# Altium schematic symbol library MCU_ST_STM32H7.SchLib: 15 symbols
Pins are listed as number, name and electrical type; pins without a type are passive.

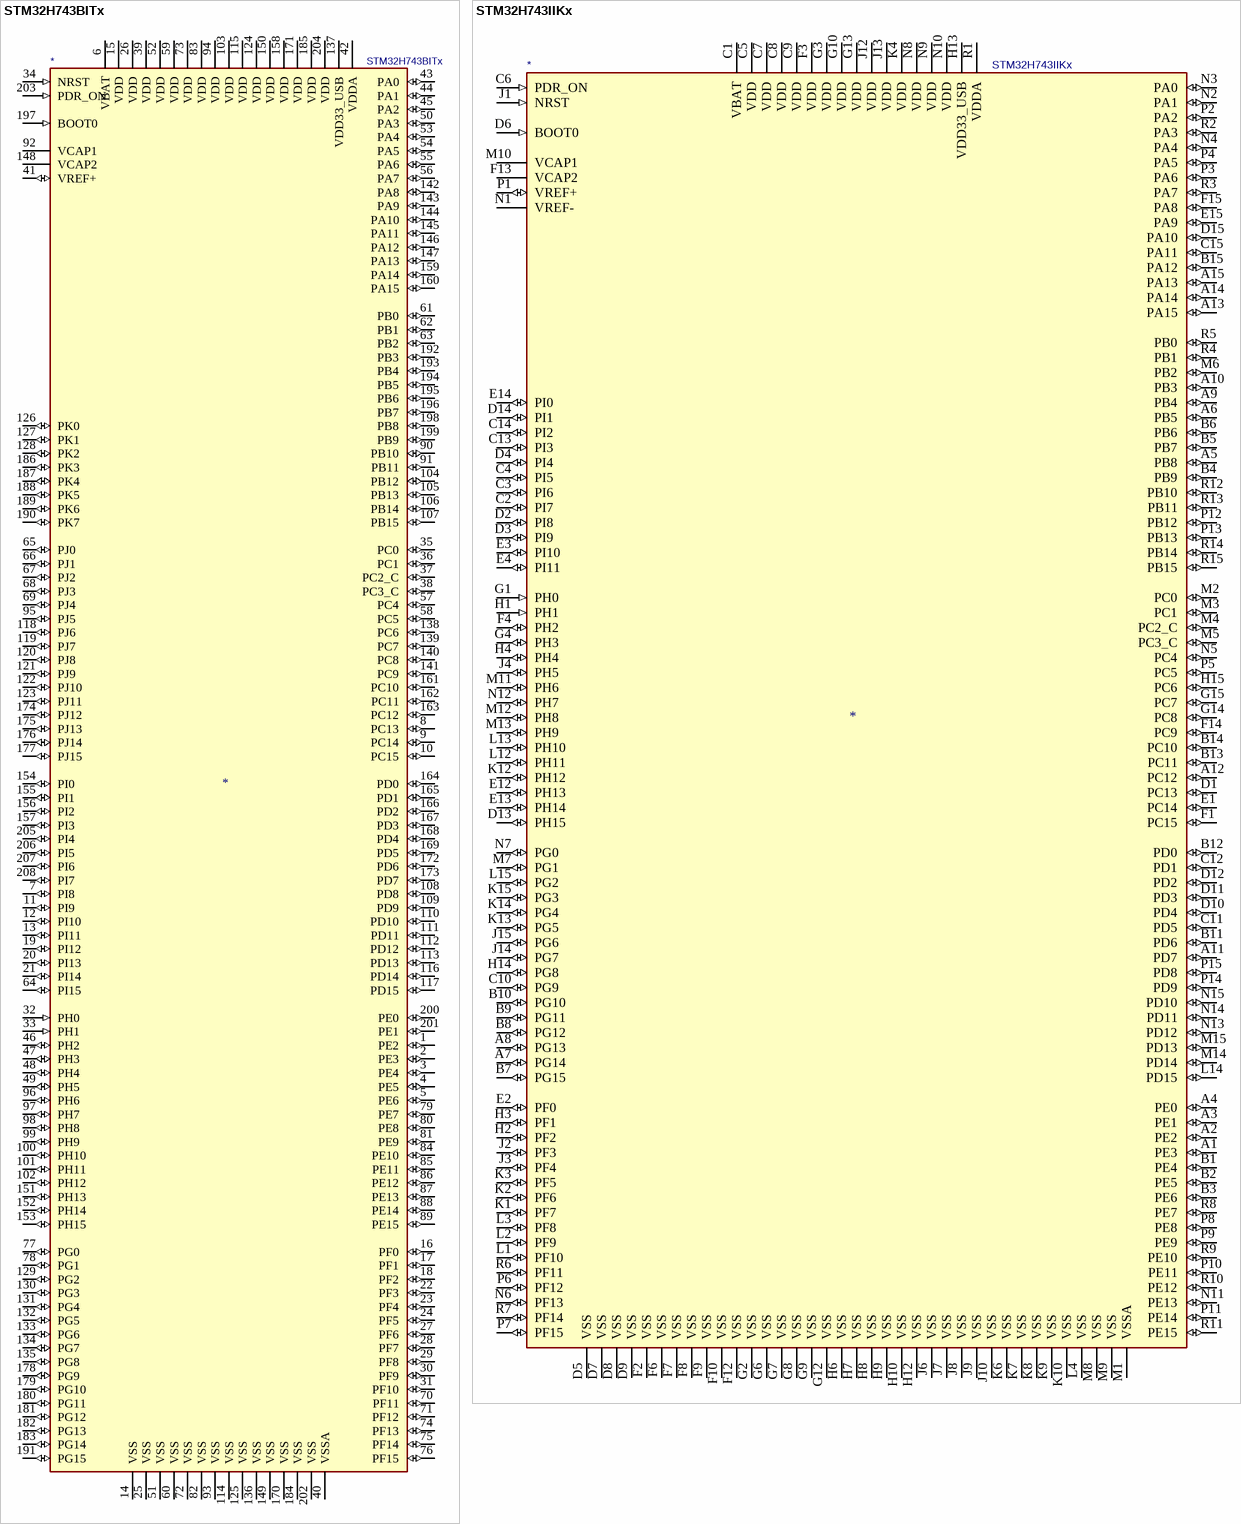
[diagram p0: symbols STM32H743BITx to STM32H743IIKx]

## STM32H743BITx
designator *  value STM32H743BITx
ki_keywords: ARM Cortex-M7 STM32H7 STM32H7x3; ki_description: ARM Cortex-M7 MCU, 2048KB flash, 864KB RAM, 400MHz, 1.7-3.6V, 168 GPIO, LQFP-208; ki_fp_filters: LQFP*28x28mm*P0.5mm*; Footprint: Package_QFP:LQFP-208_28x28mm_P0.5mm; Supplier: http://www.st.com/st-web-ui/static/active/en/resource/technical/document/datasheet/DM00387108.pdf
footprint LQFP-208_28x28mm_P0.5mm
pins: 1 PE2 (io), 2 PE3 (io), 3 PE4 (io), 4 PE5 (io), 5 PE6 (io), 6 VBAT (power), 7 PI8 (io), 8 PC13 (io), 9 PC14 (io), 10 PC15 (io), 11 PI9 (io), 12 PI10 (io), 13 PI11 (io), 14 VSS (power), 15 VDD (power), 16 PF0 (io), 17 PF1 (io), 18 PF2 (io), 19 PI12 (io), 20 PI13 (io), 21 PI14 (io), 22 PF3 (io), 23 PF4 (io), 24 PF5 (io), 25 VSS (power), 26 VDD (power), 27 PF6 (io), 28 PF7 (io), 29 PF8 (io), 30 PF9 (io), 31 PF10 (io), 32 PH0 (in), 33 PH1 (in), 34 NRST (in), 35 PC0 (io), 36 PC1 (io), 37 PC2_C (io), 38 PC3_C (io), 39 VDD (power), 40 VSSA (power), 41 VREF+ (io), 42 VDDA (power), 43 PA0 (io), 44 PA1 (io), 45 PA2 (io), 46 PH2 (io), 47 PH3 (io), 48 PH4 (io), 49 PH5 (io), 50 PA3 (io), 51 VSS (power), 52 VDD (power), 53 PA4 (io), 54 PA5 (io), 55 PA6 (io), 56 PA7 (io), 57 PC4 (io), 58 PC5 (io), 59 VDD (power), 60 VSS (power), 61 PB0 (io), 62 PB1 (io), 63 PB2 (io), 64 PI15 (io), 65 PJ0 (io), 66 PJ1 (io), 67 PJ2 (io), 68 PJ3 (io), 69 PJ4 (io), 70 PF11 (io), 71 PF12 (io), 72 VSS (power), 73 VDD (power), 74 PF13 (io), 75 PF14 (io), 76 PF15 (io), 77 PG0 (io), 78 PG1 (io), 79 PE7 (io), 80 PE8 (io), 81 PE9 (io), 82 VSS (power), 83 VDD (power), 84 PE10 (io), 85 PE11 (io), 86 PE12 (io), 87 PE13 (io), 88 PE14 (io), 89 PE15 (io), 90 PB10 (io), 91 PB11 (io), 92 VCAP1 (power), 93 VSS (power), 94 VDD (power), 95 PJ5 (io), 96 PH6 (io), 97 PH7 (io), 98 PH8 (io), 99 PH9 (io), 100 PH10 (io), 101 PH11 (io), 102 PH12 (io), 103 VDD (power), 104 PB12 (io), 105 PB13 (io), 106 PB14 (io), 107 PB15 (io), 108 PD8 (io), 109 PD9 (io), 110 PD10 (io), 111 PD11 (io), 112 PD12 (io), 113 PD13 (io), 114 VSS (power), 115 VDD (power), 116 PD14 (io), 117 PD15 (io), 118 PJ6 (io), 119 PJ7 (io), 120 PJ8 (io), 121 PJ9 (io), 122 PJ10 (io), 123 PJ11 (io), 124 VDD (power), 125 VSS (power), 126 PK0 (io), 127 PK1 (io), 128 PK2 (io), 129 PG2 (io), 130 PG3 (io), 131 PG4 (io), 132 PG5 (io), 133 PG6 (io), 134 PG7 (io), 135 PG8 (io), 136 VSS (power), 137 VDD33_USB (power), 138 PC6 (io), 139 PC7 (io), 140 PC8 (io), 141 PC9 (io), 142 PA8 (io), 143 PA9 (io), 144 PA10 (io), 145 PA11 (io), 146 PA12 (io), 147 PA13 (io), 148 VCAP2 (power), 149 VSS (power), 150 VDD (power), 151 PH13 (io), 152 PH14 (io), 153 PH15 (io), 154 PI0 (io), 155 PI1 (io), 156 PI2 (io), 157 PI3 (io), 158 VDD (power), 159 PA14 (io), 160 PA15 (io), 161 PC10 (io), 162 PC11 (io), 163 PC12 (io), 164 PD0 (io), 165 PD1 (io), 166 PD2 (io), 167 PD3 (io), 168 PD4 (io), 169 PD5 (io), 170 VSS (power), 171 VDD (power), 172 PD6 (io), 173 PD7 (io), 174 PJ12 (io), 175 PJ13 (io), 176 PJ14 (io), 177 PJ15 (io), 178 PG9 (io), 179 PG10 (io), 180 PG11 (io), 181 PG12 (io), 182 PG13 (io), 183 PG14 (io), 184 VSS (power), 185 VDD (power), 186 PK3 (io), 187 PK4 (io), 188 PK5 (io), 189 PK6 (io), 190 PK7 (io), 191 PG15 (io), 192 PB3 (io), 193 PB4 (io), 194 PB5 (io), 195 PB6 (io), 196 PB7 (io), 197 BOOT0 (in), 198 PB8 (io), 199 PB9 (io), 200 PE0 (io), 201 PE1 (io), 202 VSS (power), 203 PDR_ON (in), 204 VDD (power), 205 PI4 (io), 206 PI5 (io), 207 PI6 (io), 208 PI7 (io)

## STM32H743IIKx
designator *  value STM32H743IIKx
ki_keywords: ARM Cortex-M7 STM32H7 STM32H7x3; ki_description: ARM Cortex-M7 MCU, 2048KB flash, 864KB RAM, 400MHz, 1.7-3.6V, 140 GPIO, UFBGA-176; ki_fp_filters: UFBGA*10x10mm*Layout15x15*P0.65mm*; Footprint: Package_BGA:UFBGA-201_10x10mm_Layout15x15_P0.65mm; Supplier: http://www.st.com/st-web-ui/static/active/en/resource/technical/document/datasheet/DM00387108.pdf
footprint UFBGA-201_10x10mm_Layout15x15_P0.65mm
pins: A1 PE3 (io), A2 PE2 (io), A3 PE1 (io), A4 PE0 (io), A5 PB8 (io), A6 PB5 (io), A7 PG14 (io), A8 PG13 (io), A9 PB4 (io), A10 PB3 (io), A11 PD7 (io), A12 PC12 (io), A13 PA15 (io), A14 PA14 (io), A15 PA13 (io), B1 PE4 (io), B2 PE5 (io), B3 PE6 (io), B4 PB9 (io), B5 PB7 (io), B6 PB6 (io), B7 PG15 (io), B8 PG12 (io), B9 PG11 (io), B10 PG10 (io), B11 PD6 (io), B12 PD0 (io), B13 PC11 (io), B14 PC10 (io), B15 PA12 (io), C1 VBAT (power), C2 PI7 (io), C3 PI6 (io), C4 PI5 (io), C5 VDD (power), C6 PDR_ON (in), C7 VDD (power), C8 VDD (power), C9 VDD (power), C10 PG9 (io), C11 PD5 (io), C12 PD1 (io), C13 PI3 (io), C14 PI2 (io), C15 PA11 (io), D1 PC13 (io), D2 PI8 (io), D3 PI9 (io), D4 PI4 (io), D5 VSS (power), D6 BOOT0 (in), D7 VSS (power), D8 VSS (power), D9 VSS (power), D10 PD4 (io), D11 PD3 (io), D12 PD2 (io), D13 PH15 (io), D14 PI1 (io), D15 PA10 (io), E1 PC14 (io), E2 PF0 (io), E3 PI10 (io), E4 PI11 (io), E12 PH13 (io), E13 PH14 (io), E14 PI0 (io), E15 PA9 (io), F1 PC15 (io), F2 VSS (power), F3 VDD (power), F4 PH2 (io), F6 VSS (power), F7 VSS (power), F8 VSS (power), F9 VSS (power), F10 VSS (power), F12 VSS (power), F13 VCAP2 (power), F14 PC9 (io), F15 PA8 (io), G1 PH0 (in), G2 VSS (power), G3 VDD (power), G4 PH3 (io), G6 VSS (power), G7 VSS (power), G8 VSS (power), G9 VSS (power), G10 VDD (power), G12 VSS (power), G13 VDD (power), G14 PC8 (io), G15 PC7 (io), H1 PH1 (in), H2 PF2 (io), H3 PF1 (io), H4 PH4 (io), H6 VSS (power), H7 VSS (power), H8 VSS (power), H9 VSS (power), H10 VSS (power), H12 VSS (power), H13 VDD33_USB (power), H14 PG8 (io), H15 PC6 (io), J1 NRST (in), J2 PF3 (io), J3 PF4 (io), J4 PH5 (io), J6 VSS (power), J7 VSS (power), J8 VSS (power), J9 VSS (power), J10 VSS (power), J12 VDD (power), J13 VDD (power), J14 PG7 (io), J15 PG6 (io), K1 PF7 (io), K2 PF6 (io), K3 PF5 (io), K4 VDD (power), K6 VSS (power), K7 VSS (power), K8 VSS (power), K9 VSS (power), K10 VSS (power), K12 PH12 (io), K13 PG5 (io), K14 PG4 (io), K15 PG3 (io), L1 PF10 (io), L2 PF9 (io), L3 PF8 (io), L4 VSS (power), L12 PH11 (io), L13 PH10 (io), L14 PD15 (io), L15 PG2 (io), M1 VSSA (power), M2 PC0 (io), M3 PC1 (io), M4 PC2_C (io), M5 PC3_C (io), M6 PB2 (io), M7 PG1 (io), M8 VSS (power), M9 VSS (power), M10 VCAP1 (power), M11 PH6 (io), M12 PH8 (io), M13 PH9 (io), M14 PD14 (io), M15 PD13 (io), N1 VREF- (power), N2 PA1 (io), N3 PA0 (io), N4 PA4 (io), N5 PC4 (io), N6 PF13 (io), N7 PG0 (io), N8 VDD (power), N9 VDD (power), N10 VDD (power), N11 PE13 (io), N12 PH7 (io), N13 PD12 (io), N14 PD11 (io), N15 PD10 (io), P1 VREF+ (io), P2 PA2 (io), P3 PA6 (io), P4 PA5 (io), P5 PC5 (io), P6 PF12 (io), P7 PF15 (io), P8 PE8 (io), P9 PE9 (io), P10 PE11 (io), P11 PE14 (io), P12 PB12 (io), P13 PB13 (io), P14 PD9 (io), P15 PD8 (io), R1 VDDA (power), R2 PA3 (io), R3 PA7 (io), R4 PB1 (io), R5 PB0 (io), R6 PF11 (io), R7 PF14 (io), R8 PE7 (io), R9 PE10 (io), R10 PE12 (io), R11 PE15 (io), R12 PB10 (io), R13 PB11 (io), R14 PB14 (io), R15 PB15 (io)

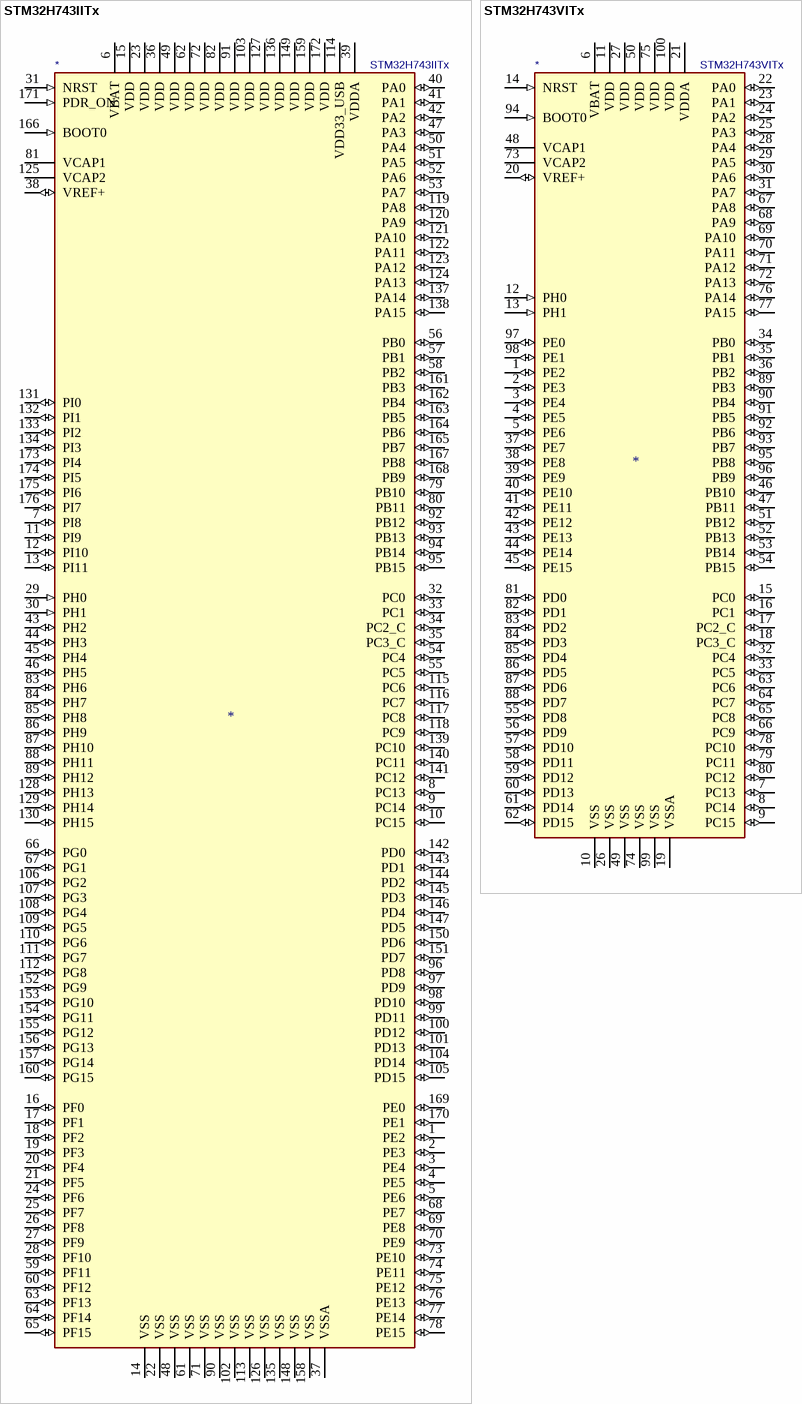
[diagram p1: symbols STM32H743IITx to STM32H743VITx]

## STM32H743IITx
designator *  value STM32H743IITx
ki_keywords: ARM Cortex-M7 STM32H7 STM32H7x3; ki_description: ARM Cortex-M7 MCU, 2048KB flash, 864KB RAM, 400MHz, 1.7-3.6V, 140 GPIO, LQFP-176; ki_fp_filters: LQFP*24x24mm*P0.5mm*; Footprint: Package_QFP:LQFP-176_24x24mm_P0.5mm; Supplier: http://www.st.com/st-web-ui/static/active/en/resource/technical/document/datasheet/DM00387108.pdf
footprint LQFP-176_24x24mm_P0.5mm
pins: 1 PE2 (io), 2 PE3 (io), 3 PE4 (io), 4 PE5 (io), 5 PE6 (io), 6 VBAT (power), 7 PI8 (io), 8 PC13 (io), 9 PC14 (io), 10 PC15 (io), 11 PI9 (io), 12 PI10 (io), 13 PI11 (io), 14 VSS (power), 15 VDD (power), 16 PF0 (io), 17 PF1 (io), 18 PF2 (io), 19 PF3 (io), 20 PF4 (io), 21 PF5 (io), 22 VSS (power), 23 VDD (power), 24 PF6 (io), 25 PF7 (io), 26 PF8 (io), 27 PF9 (io), 28 PF10 (io), 29 PH0 (in), 30 PH1 (in), 31 NRST (in), 32 PC0 (io), 33 PC1 (io), 34 PC2_C (io), 35 PC3_C (io), 36 VDD (power), 37 VSSA (power), 38 VREF+ (io), 39 VDDA (power), 40 PA0 (io), 41 PA1 (io), 42 PA2 (io), 43 PH2 (io), 44 PH3 (io), 45 PH4 (io), 46 PH5 (io), 47 PA3 (io), 48 VSS (power), 49 VDD (power), 50 PA4 (io), 51 PA5 (io), 52 PA6 (io), 53 PA7 (io), 54 PC4 (io), 55 PC5 (io), 56 PB0 (io), 57 PB1 (io), 58 PB2 (io), 59 PF11 (io), 60 PF12 (io), 61 VSS (power), 62 VDD (power), 63 PF13 (io), 64 PF14 (io), 65 PF15 (io), 66 PG0 (io), 67 PG1 (io), 68 PE7 (io), 69 PE8 (io), 70 PE9 (io), 71 VSS (power), 72 VDD (power), 73 PE10 (io), 74 PE11 (io), 75 PE12 (io), 76 PE13 (io), 77 PE14 (io), 78 PE15 (io), 79 PB10 (io), 80 PB11 (io), 81 VCAP1 (power), 82 VDD (power), 83 PH6 (io), 84 PH7 (io), 85 PH8 (io), 86 PH9 (io), 87 PH10 (io), 88 PH11 (io), 89 PH12 (io), 90 VSS (power), 91 VDD (power), 92 PB12 (io), 93 PB13 (io), 94 PB14 (io), 95 PB15 (io), 96 PD8 (io), 97 PD9 (io), 98 PD10 (io), 99 PD11 (io), 100 PD12 (io), 101 PD13 (io), 102 VSS (power), 103 VDD (power), 104 PD14 (io), 105 PD15 (io), 106 PG2 (io), 107 PG3 (io), 108 PG4 (io), 109 PG5 (io), 110 PG6 (io), 111 PG7 (io), 112 PG8 (io), 113 VSS (power), 114 VDD33_USB (power), 115 PC6 (io), 116 PC7 (io), 117 PC8 (io), 118 PC9 (io), 119 PA8 (io), 120 PA9 (io), 121 PA10 (io), 122 PA11 (io), 123 PA12 (io), 124 PA13 (io), 125 VCAP2 (power), 126 VSS (power), 127 VDD (power), 128 PH13 (io), 129 PH14 (io), 130 PH15 (io), 131 PI0 (io), 132 PI1 (io), 133 PI2 (io), 134 PI3 (io), 135 VSS (power), 136 VDD (power), 137 PA14 (io), 138 PA15 (io), 139 PC10 (io), 140 PC11 (io), 141 PC12 (io), 142 PD0 (io), 143 PD1 (io), 144 PD2 (io), 145 PD3 (io), 146 PD4 (io), 147 PD5 (io), 148 VSS (power), 149 VDD (power), 150 PD6 (io), 151 PD7 (io), 152 PG9 (io), 153 PG10 (io), 154 PG11 (io), 155 PG12 (io), 156 PG13 (io), 157 PG14 (io), 158 VSS (power), 159 VDD (power), 160 PG15 (io), 161 PB3 (io), 162 PB4 (io), 163 PB5 (io), 164 PB6 (io), 165 PB7 (io), 166 BOOT0 (in), 167 PB8 (io), 168 PB9 (io), 169 PE0 (io), 170 PE1 (io), 171 PDR_ON (in), 172 VDD (power), 173 PI4 (io), 174 PI5 (io), 175 PI6 (io), 176 PI7 (io)

## STM32H743VITx
designator *  value STM32H743VITx
ki_keywords: ARM Cortex-M7 STM32H7 STM32H7x3; ki_description: ARM Cortex-M7 MCU, 2048KB flash, 864KB RAM, 400MHz, 1.7-3.6V, 82 GPIO, LQFP-100; ki_fp_filters: LQFP*14x14mm*P0.5mm*; Footprint: Package_QFP:LQFP-100_14x14mm_P0.5mm; Supplier: http://www.st.com/st-web-ui/static/active/en/resource/technical/document/datasheet/DM00387108.pdf
footprint LQFP-100_14x14mm_P0.5mm
pins: 1 PE2 (io), 2 PE3 (io), 3 PE4 (io), 4 PE5 (io), 5 PE6 (io), 6 VBAT (power), 7 PC13 (io), 8 PC14 (io), 9 PC15 (io), 10 VSS (power), 11 VDD (power), 12 PH0 (in), 13 PH1 (in), 14 NRST (in), 15 PC0 (io), 16 PC1 (io), 17 PC2_C (io), 18 PC3_C (io), 19 VSSA (power), 20 VREF+ (io), 21 VDDA (power), 22 PA0 (io), 23 PA1 (io), 24 PA2 (io), 25 PA3 (io), 26 VSS (power), 27 VDD (power), 28 PA4 (io), 29 PA5 (io), 30 PA6 (io), 31 PA7 (io), 32 PC4 (io), 33 PC5 (io), 34 PB0 (io), 35 PB1 (io), 36 PB2 (io), 37 PE7 (io), 38 PE8 (io), 39 PE9 (io), 40 PE10 (io), 41 PE11 (io), 42 PE12 (io), 43 PE13 (io), 44 PE14 (io), 45 PE15 (io), 46 PB10 (io), 47 PB11 (io), 48 VCAP1 (power), 49 VSS (power), 50 VDD (power), 51 PB12 (io), 52 PB13 (io), 53 PB14 (io), 54 PB15 (io), 55 PD8 (io), 56 PD9 (io), 57 PD10 (io), 58 PD11 (io), 59 PD12 (io), 60 PD13 (io), 61 PD14 (io), 62 PD15 (io), 63 PC6 (io), 64 PC7 (io), 65 PC8 (io), 66 PC9 (io), 67 PA8 (io), 68 PA9 (io), 69 PA10 (io), 70 PA11 (io), 71 PA12 (io), 72 PA13 (io), 73 VCAP2 (power), 74 VSS (power), 75 VDD (power), 76 PA14 (io), 77 PA15 (io), 78 PC10 (io), 79 PC11 (io), 80 PC12 (io), 81 PD0 (io), 82 PD1 (io), 83 PD2 (io), 84 PD3 (io), 85 PD4 (io), 86 PD5 (io), 87 PD6 (io), 88 PD7 (io), 89 PB3 (io), 90 PB4 (io), 91 PB5 (io), 92 PB6 (io), 93 PB7 (io), 94 BOOT0 (in), 95 PB8 (io), 96 PB9 (io), 97 PE0 (io), 98 PE1 (io), 99 VSS (power), 100 VDD (power)

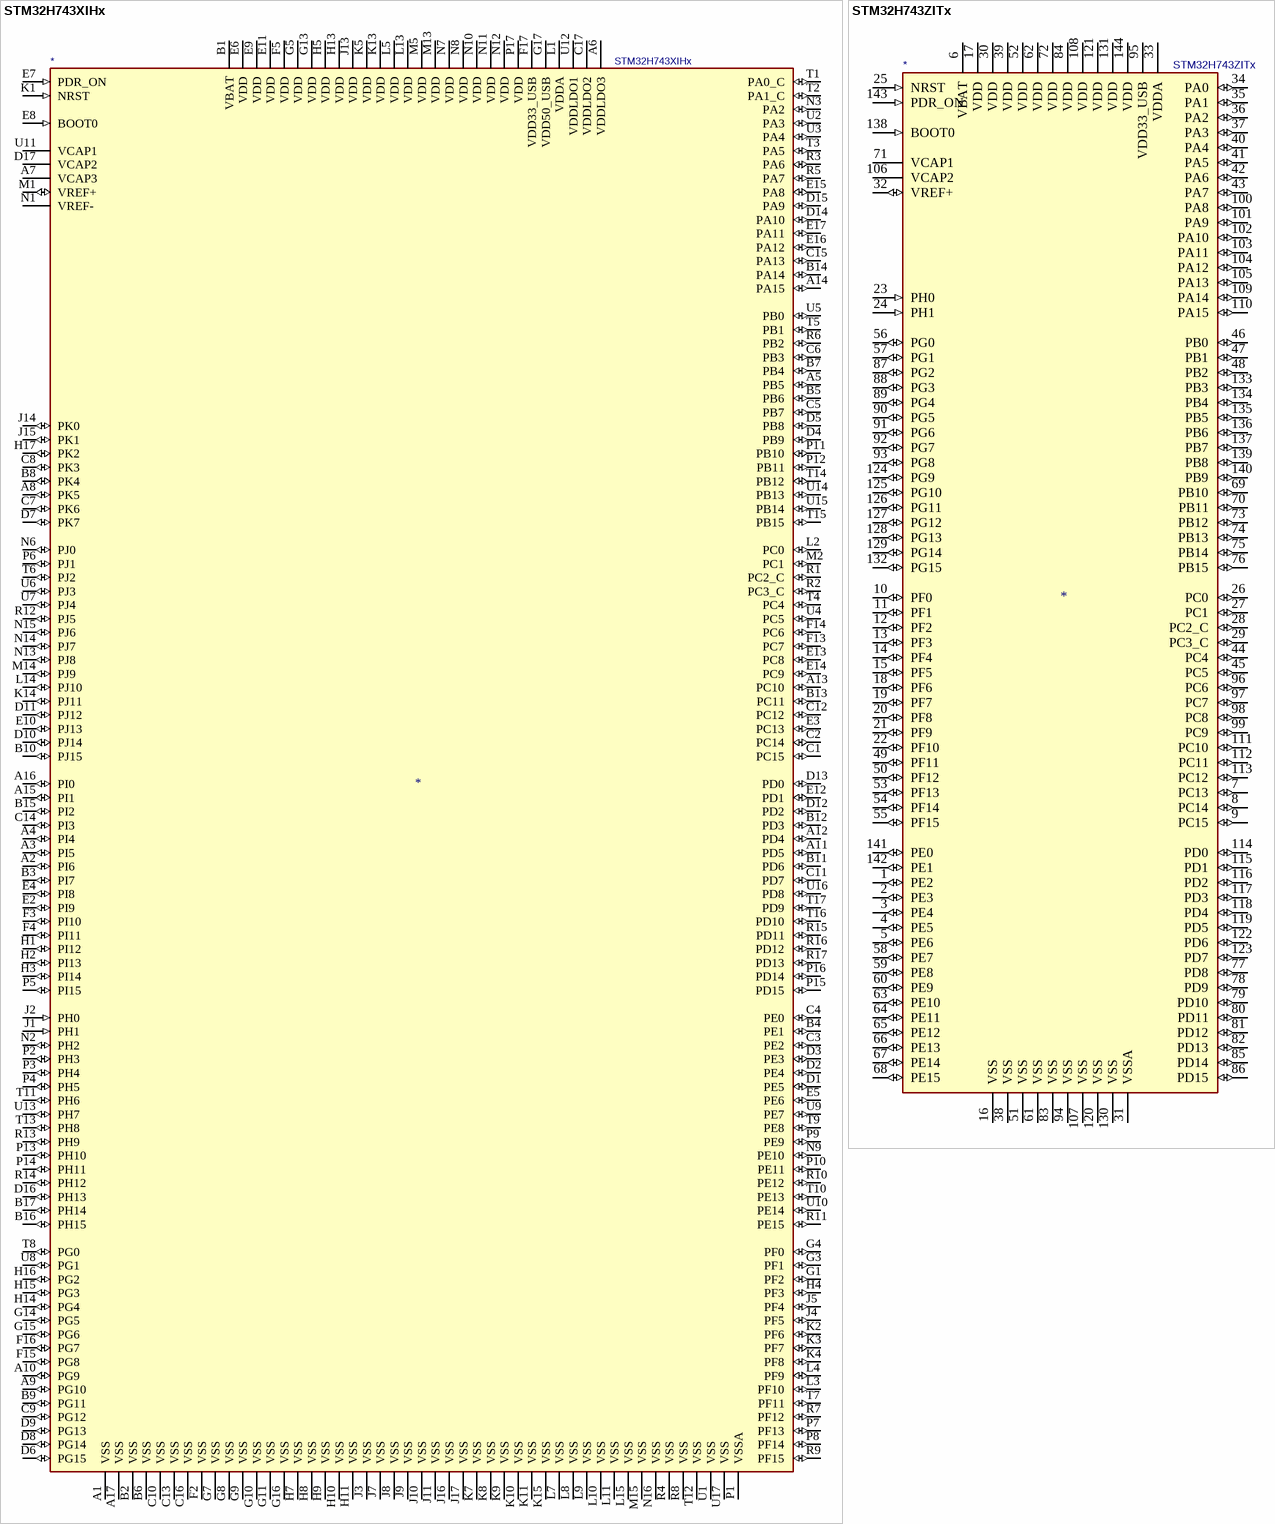
[diagram p2: symbols STM32H743XIHx to STM32H743ZITx]

## STM32H743XIHx
designator *  value STM32H743XIHx
ki_keywords: ARM Cortex-M7 STM32H7 STM32H7x3; ki_description: ARM Cortex-M7 MCU, 2048KB flash, 864KB RAM, 400MHz, 1.7-3.6V, 168 GPIO, TFBGA-240; ki_fp_filters: TFBGA*14x14mm*Layout17x17*P0.8mm*; Footprint: Package_BGA:TFBGA-265_14x14mm_Layout17x17_P0.8mm; Supplier: http://www.st.com/st-web-ui/static/active/en/resource/technical/document/datasheet/DM00387108.pdf
footprint TFBGA-265_14x14mm_Layout17x17_P0.8mm
pins: A1 VSS (power), A2 PI6 (io), A3 PI5 (io), A4 PI4 (io), A5 PB5 (io), A6 VDDLDO3 (power), A7 VCAP3 (power), A8 PK5 (io), A9 PG10 (io), A10 PG9 (io), A11 PD5 (io), A12 PD4 (io), A13 PC10 (io), A14 PA15 (io), A15 PI1 (io), A16 PI0 (io), A17 VSS (power), B1 VBAT (power), B2 VSS (power), B3 PI7 (io), B4 PE1 (io), B5 PB6 (io), B6 VSS (power), B7 PB4 (io), B8 PK4 (io), B9 PG11 (io), B10 PJ15 (io), B11 PD6 (io), B12 PD3 (io), B13 PC11 (io), B14 PA14 (io), B15 PI2 (io), B16 PH15 (io), B17 PH14 (io), C1 PC15 (io), C2 PC14 (io), C3 PE2 (io), C4 PE0 (io), C5 PB7 (io), C6 PB3 (io), C7 PK6 (io), C8 PK3 (io), C9 PG12 (io), C10 VSS (power), C11 PD7 (io), C12 PC12 (io), C13 VSS (power), C14 PI3 (io), C15 PA13 (io), C16 VSS (power), C17 VDDLDO2 (power), D1 PE5 (io), D2 PE4 (io), D3 PE3 (io), D4 PB9 (io), D5 PB8 (io), D6 PG15 (io), D7 PK7 (io), D8 PG14 (io), D9 PG13 (io), D10 PJ14 (io), D11 PJ12 (io), D12 PD2 (io), D13 PD0 (io), D14 PA10 (io), D15 PA9 (io), D16 PH13 (io), D17 VCAP2 (power), E1 NC (in) hidden, E2 PI9 (io), E3 PC13 (io), E4 PI8 (io), E5 PE6 (io), E6 VDD (power), E7 PDR_ON (in), E8 BOOT0 (in), E9 VDD (power), E10 PJ13 (io), E11 VDD (power), E12 PD1 (io), E13 PC8 (io), E14 PC9 (io), E15 PA8 (io), E16 PA12 (io), E17 PA11 (io), F1 NC (in) hidden, F2 VSS (power), F3 PI10 (io), F4 PI11 (io), F5 VDD (power), F13 PC7 (io), F14 PC6 (io), F15 PG8 (io), F16 PG7 (io), F17 VDD33_USB (power), G1 PF2 (io), G2 NC (in) hidden, G3 PF1 (io), G4 PF0 (io), G5 VDD (power), G7 VSS (power), G8 VSS (power), G9 VSS (power), G10 VSS (power), G11 VSS (power), G13 VDD (power), G14 PG5 (io), G15 PG6 (io), G16 VSS (power), G17 VDD50_USB (power), H1 PI12 (io), H2 PI13 (io), H3 PI14 (io), H4 PF3 (io), H5 VDD (power), H7 VSS (power), H8 VSS (power), H9 VSS (power), H10 VSS (power), H11 VSS (power), H13 VDD (power), H14 PG4 (io), H15 PG3 (io), H16 PG2 (io), H17 PK2 (io), J1 PH1 (in), J2 PH0 (in), J3 VSS (power), J4 PF5 (io), J5 PF4 (io), J7 VSS (power), J8 VSS (power), J9 VSS (power), J10 VSS (power), J11 VSS (power), J13 VDD (power), J14 PK0 (io), J15 PK1 (io), J16 VSS (power), J17 VSS (power), K1 NRST (in), K2 PF6 (io), K3 PF7 (io), K4 PF8 (io), K5 VDD (power), K7 VSS (power), K8 VSS (power), K9 VSS (power), K10 VSS (power), K11 VSS (power), K13 VDD (power), K14 PJ11 (io), K15 VSS (power), K16 NC (in) hidden, K17 NC (in) hidden, L1 VDDA (power), L2 PC0 (io), L3 PF10 (io), L4 PF9 (io), L5 VDD (power), L7 VSS (power), L8 VSS (power), L9 VSS (power), L10 VSS (power), L11 VSS (power), L13 VDD (power), L14 PJ10 (io), L15 VSS (power), L16 NC (in) hidden, L17 NC (in) hidden, M1 VREF+ (io), M2 PC1 (io), M5 VDD (power), M13 VDD (power), M14 PJ9 (io), M15 VSS (power), M16 NC (in) hidden, M17 NC (in) hidden, N1 VREF- (power), N2 PH2 (io), N3 PA2 (io), N6 PJ0 (io), N7 VDD (power), N8 VDD (power), N9 PE10 (io), N10 VDD (power), N11 VDD (power), N12 VDD (power), N13 PJ8 (io), N14 PJ7 (io), N15 PJ6 (io), N16 VSS (power), N17 NC (in) hidden, P1 VSSA (power), P2 PH3 (io), P3 PH4 (io), P4 PH5 (io), P5 PI15 (io), P6 PJ1 (io), P7 PF13 (io), P8 PF14 (io), P9 PE9 (io), P10 PE11 (io), P11 PB10 (io), P12 PB11 (io), P13 PH10 (io), P14 PH11 (io), P15 PD15 (io), P16 PD14 (io), P17 VDD (power), R1 PC2_C (io), R2 PC3_C (io), R3 PA6 (io), R4 VSS (power), R5 PA7 (io), R6 PB2 (io), R7 PF12 (io), R8 VSS (power), R9 PF15 (io), R10 PE12 (io), R11 PE15 (io), R12 PJ5 (io), R13 PH9 (io), R14 PH12 (io), R15 PD11 (io), R16 PD12 (io), R17 PD13 (io), T1 PA0_C (io), T2 PA1_C (io), T3 PA5 (io), T4 PC4 (io), T5 PB1 (io), T6 PJ2 (io), T7 PF11 (io), T8 PG0 (io), T9 PE8 (io), T10 PE13 (io), T11 PH6 (io), T12 VSS (power), T13 PH8 (io), T14 PB12 (io), T15 PB15 (io), T16 PD10 (io), T17 PD9 (io), U1 VSS (power), U2 PA3 (io), U3 PA4 (io), U4 PC5 (io), U5 PB0 (io), U6 PJ3 (io), U7 PJ4 (io), U8 PG1 (io), U9 PE7 (io), U10 PE14 (io), U11 VCAP1 (power), U12 VDDLDO1 (power), U13 PH7 (io), U14 PB13 (io), U15 PB14 (io), U16 PD8 (io), U17 VSS (power)

## STM32H743ZITx
designator *  value STM32H743ZITx
ki_keywords: ARM Cortex-M7 STM32H7 STM32H7x3; ki_description: ARM Cortex-M7 MCU, 2048KB flash, 864KB RAM, 400MHz, 1.7-3.6V, 114 GPIO, LQFP-144; ki_fp_filters: LQFP*20x20mm*P0.5mm*; Footprint: Package_QFP:LQFP-144_20x20mm_P0.5mm; Supplier: http://www.st.com/st-web-ui/static/active/en/resource/technical/document/datasheet/DM00387108.pdf
footprint LQFP-144_20x20mm_P0.5mm
pins: 1 PE2 (io), 2 PE3 (io), 3 PE4 (io), 4 PE5 (io), 5 PE6 (io), 6 VBAT (power), 7 PC13 (io), 8 PC14 (io), 9 PC15 (io), 10 PF0 (io), 11 PF1 (io), 12 PF2 (io), 13 PF3 (io), 14 PF4 (io), 15 PF5 (io), 16 VSS (power), 17 VDD (power), 18 PF6 (io), 19 PF7 (io), 20 PF8 (io), 21 PF9 (io), 22 PF10 (io), 23 PH0 (in), 24 PH1 (in), 25 NRST (in), 26 PC0 (io), 27 PC1 (io), 28 PC2_C (io), 29 PC3_C (io), 30 VDD (power), 31 VSSA (power), 32 VREF+ (io), 33 VDDA (power), 34 PA0 (io), 35 PA1 (io), 36 PA2 (io), 37 PA3 (io), 38 VSS (power), 39 VDD (power), 40 PA4 (io), 41 PA5 (io), 42 PA6 (io), 43 PA7 (io), 44 PC4 (io), 45 PC5 (io), 46 PB0 (io), 47 PB1 (io), 48 PB2 (io), 49 PF11 (io), 50 PF12 (io), 51 VSS (power), 52 VDD (power), 53 PF13 (io), 54 PF14 (io), 55 PF15 (io), 56 PG0 (io), 57 PG1 (io), 58 PE7 (io), 59 PE8 (io), 60 PE9 (io), 61 VSS (power), 62 VDD (power), 63 PE10 (io), 64 PE11 (io), 65 PE12 (io), 66 PE13 (io), 67 PE14 (io), 68 PE15 (io), 69 PB10 (io), 70 PB11 (io), 71 VCAP1 (power), 72 VDD (power), 73 PB12 (io), 74 PB13 (io), 75 PB14 (io), 76 PB15 (io), 77 PD8 (io), 78 PD9 (io), 79 PD10 (io), 80 PD11 (io), 81 PD12 (io), 82 PD13 (io), 83 VSS (power), 84 VDD (power), 85 PD14 (io), 86 PD15 (io), 87 PG2 (io), 88 PG3 (io), 89 PG4 (io), 90 PG5 (io), 91 PG6 (io), 92 PG7 (io), 93 PG8 (io), 94 VSS (power), 95 VDD33_USB (power), 96 PC6 (io), 97 PC7 (io), 98 PC8 (io), 99 PC9 (io), 100 PA8 (io), 101 PA9 (io), 102 PA10 (io), 103 PA11 (io), 104 PA12 (io), 105 PA13 (io), 106 VCAP2 (power), 107 VSS (power), 108 VDD (power), 109 PA14 (io), 110 PA15 (io), 111 PC10 (io), 112 PC11 (io), 113 PC12 (io), 114 PD0 (io), 115 PD1 (io), 116 PD2 (io), 117 PD3 (io), 118 PD4 (io), 119 PD5 (io), 120 VSS (power), 121 VDD (power), 122 PD6 (io), 123 PD7 (io), 124 PG9 (io), 125 PG10 (io), 126 PG11 (io), 127 PG12 (io), 128 PG13 (io), 129 PG14 (io), 130 VSS (power), 131 VDD (power), 132 PG15 (io), 133 PB3 (io), 134 PB4 (io), 135 PB5 (io), 136 PB6 (io), 137 PB7 (io), 138 BOOT0 (in), 139 PB8 (io), 140 PB9 (io), 141 PE0 (io), 142 PE1 (io), 143 PDR_ON (in), 144 VDD (power)

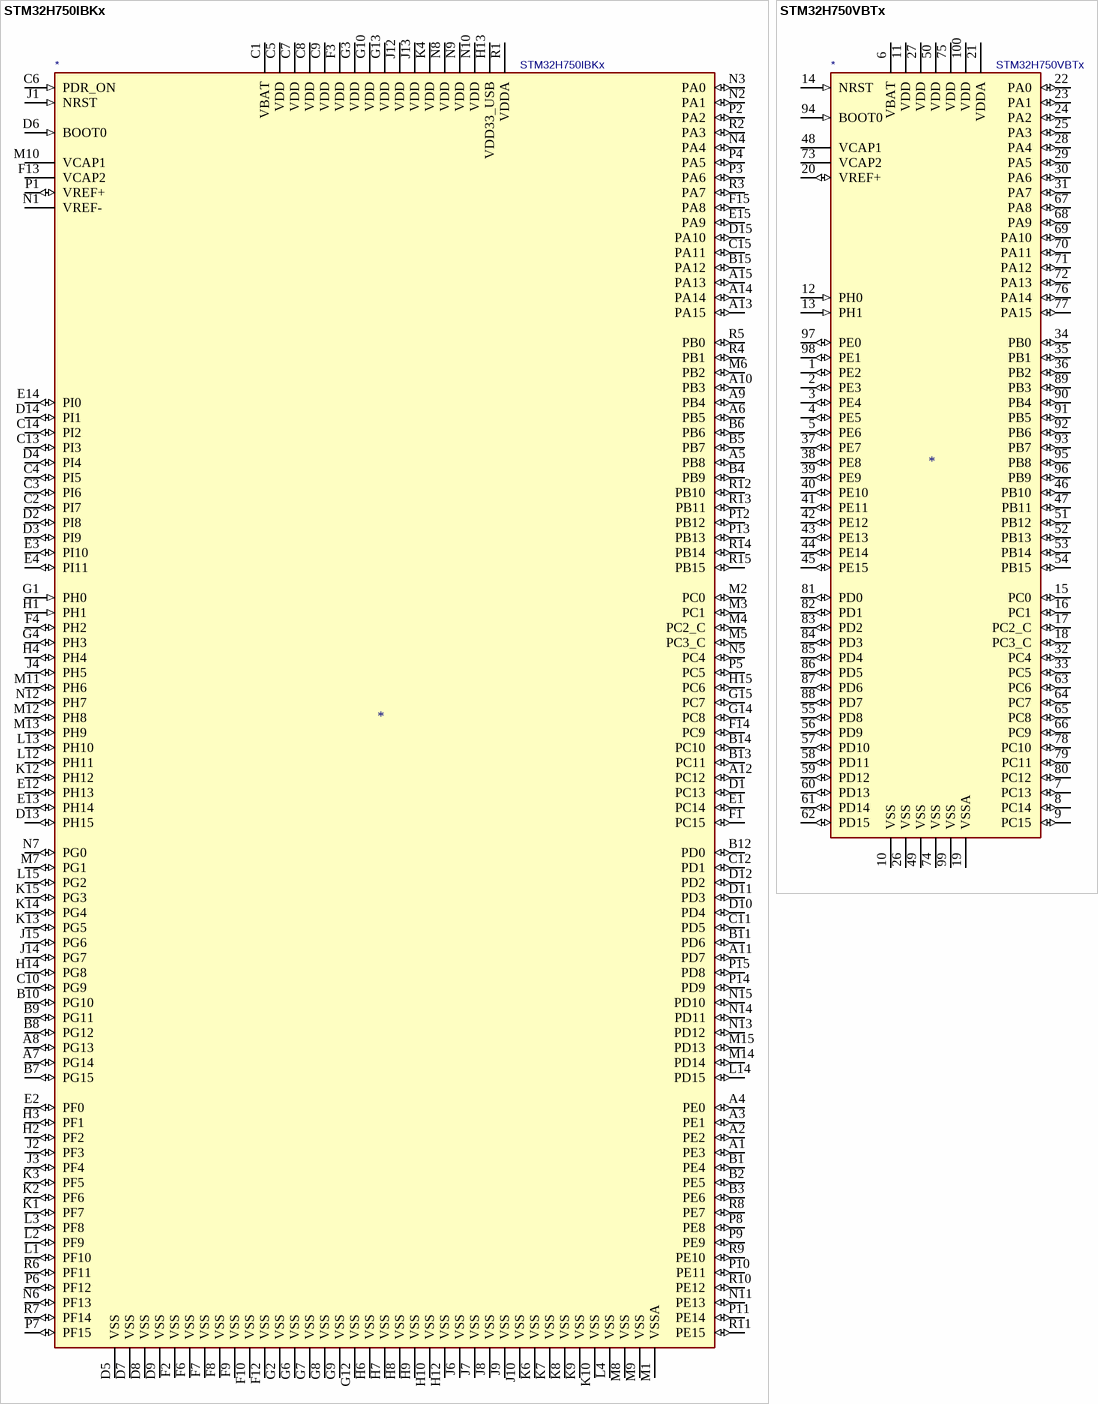
[diagram p3: symbols STM32H750IBKx to STM32H750VBTx]

## STM32H750IBKx
designator *  value STM32H750IBKx
ki_keywords: ARM Cortex-M7 STM32H7; ki_description: ARM Cortex-M7 MCU, 128KB flash, 864KB RAM, 480MHz, 1.7-3.6V, 140 GPIO, UFBGA-176; ki_fp_filters: UFBGA*10x10mm*Layout15x15*P0.65mm*; Footprint: Package_BGA:UFBGA-201_10x10mm_Layout15x15_P0.65mm; Supplier: https://www.st.com/resource/en/datasheet/stm32h750ib.pdf
footprint UFBGA-201_10x10mm_Layout15x15_P0.65mm
pins: A1 PE3 (io), A2 PE2 (io), A3 PE1 (io), A4 PE0 (io), A5 PB8 (io), A6 PB5 (io), A7 PG14 (io), A8 PG13 (io), A9 PB4 (io), A10 PB3 (io), A11 PD7 (io), A12 PC12 (io), A13 PA15 (io), A14 PA14 (io), A15 PA13 (io), B1 PE4 (io), B2 PE5 (io), B3 PE6 (io), B4 PB9 (io), B5 PB7 (io), B6 PB6 (io), B7 PG15 (io), B8 PG12 (io), B9 PG11 (io), B10 PG10 (io), B11 PD6 (io), B12 PD0 (io), B13 PC11 (io), B14 PC10 (io), B15 PA12 (io), C1 VBAT (power), C2 PI7 (io), C3 PI6 (io), C4 PI5 (io), C5 VDD (power), C6 PDR_ON (in), C7 VDD (power), C8 VDD (power), C9 VDD (power), C10 PG9 (io), C11 PD5 (io), C12 PD1 (io), C13 PI3 (io), C14 PI2 (io), C15 PA11 (io), D1 PC13 (io), D2 PI8 (io), D3 PI9 (io), D4 PI4 (io), D5 VSS (power), D6 BOOT0 (in), D7 VSS (power), D8 VSS (power), D9 VSS (power), D10 PD4 (io), D11 PD3 (io), D12 PD2 (io), D13 PH15 (io), D14 PI1 (io), D15 PA10 (io), E1 PC14 (io), E2 PF0 (io), E3 PI10 (io), E4 PI11 (io), E12 PH13 (io), E13 PH14 (io), E14 PI0 (io), E15 PA9 (io), F1 PC15 (io), F2 VSS (power), F3 VDD (power), F4 PH2 (io), F6 VSS (power), F7 VSS (power), F8 VSS (power), F9 VSS (power), F10 VSS (power), F12 VSS (power), F13 VCAP2 (power), F14 PC9 (io), F15 PA8 (io), G1 PH0 (in), G2 VSS (power), G3 VDD (power), G4 PH3 (io), G6 VSS (power), G7 VSS (power), G8 VSS (power), G9 VSS (power), G10 VDD (power), G12 VSS (power), G13 VDD (power), G14 PC8 (io), G15 PC7 (io), H1 PH1 (in), H2 PF2 (io), H3 PF1 (io), H4 PH4 (io), H6 VSS (power), H7 VSS (power), H8 VSS (power), H9 VSS (power), H10 VSS (power), H12 VSS (power), H13 VDD33_USB (power), H14 PG8 (io), H15 PC6 (io), J1 NRST (in), J2 PF3 (io), J3 PF4 (io), J4 PH5 (io), J6 VSS (power), J7 VSS (power), J8 VSS (power), J9 VSS (power), J10 VSS (power), J12 VDD (power), J13 VDD (power), J14 PG7 (io), J15 PG6 (io), K1 PF7 (io), K2 PF6 (io), K3 PF5 (io), K4 VDD (power), K6 VSS (power), K7 VSS (power), K8 VSS (power), K9 VSS (power), K10 VSS (power), K12 PH12 (io), K13 PG5 (io), K14 PG4 (io), K15 PG3 (io), L1 PF10 (io), L2 PF9 (io), L3 PF8 (io), L4 VSS (power), L12 PH11 (io), L13 PH10 (io), L14 PD15 (io), L15 PG2 (io), M1 VSSA (power), M2 PC0 (io), M3 PC1 (io), M4 PC2_C (io), M5 PC3_C (io), M6 PB2 (io), M7 PG1 (io), M8 VSS (power), M9 VSS (power), M10 VCAP1 (power), M11 PH6 (io), M12 PH8 (io), M13 PH9 (io), M14 PD14 (io), M15 PD13 (io), N1 VREF- (power), N2 PA1 (io), N3 PA0 (io), N4 PA4 (io), N5 PC4 (io), N6 PF13 (io), N7 PG0 (io), N8 VDD (power), N9 VDD (power), N10 VDD (power), N11 PE13 (io), N12 PH7 (io), N13 PD12 (io), N14 PD11 (io), N15 PD10 (io), P1 VREF+ (io), P2 PA2 (io), P3 PA6 (io), P4 PA5 (io), P5 PC5 (io), P6 PF12 (io), P7 PF15 (io), P8 PE8 (io), P9 PE9 (io), P10 PE11 (io), P11 PE14 (io), P12 PB12 (io), P13 PB13 (io), P14 PD9 (io), P15 PD8 (io), R1 VDDA (power), R2 PA3 (io), R3 PA7 (io), R4 PB1 (io), R5 PB0 (io), R6 PF11 (io), R7 PF14 (io), R8 PE7 (io), R9 PE10 (io), R10 PE12 (io), R11 PE15 (io), R12 PB10 (io), R13 PB11 (io), R14 PB14 (io), R15 PB15 (io)

## STM32H750VBTx
designator *  value STM32H750VBTx
ki_keywords: ARM Cortex-M7 STM32H7; ki_description: ARM Cortex-M7 MCU, 128KB flash, 864KB RAM, 480MHz, 1.7-3.6V, 82 GPIO, LQFP-100; ki_fp_filters: LQFP*14x14mm*P0.5mm*; Footprint: Package_QFP:LQFP-100_14x14mm_P0.5mm; Supplier: https://www.st.com/resource/en/datasheet/stm32h750ib.pdf
footprint LQFP-100_14x14mm_P0.5mm
pins: 1 PE2 (io), 2 PE3 (io), 3 PE4 (io), 4 PE5 (io), 5 PE6 (io), 6 VBAT (power), 7 PC13 (io), 8 PC14 (io), 9 PC15 (io), 10 VSS (power), 11 VDD (power), 12 PH0 (in), 13 PH1 (in), 14 NRST (in), 15 PC0 (io), 16 PC1 (io), 17 PC2_C (io), 18 PC3_C (io), 19 VSSA (power), 20 VREF+ (io), 21 VDDA (power), 22 PA0 (io), 23 PA1 (io), 24 PA2 (io), 25 PA3 (io), 26 VSS (power), 27 VDD (power), 28 PA4 (io), 29 PA5 (io), 30 PA6 (io), 31 PA7 (io), 32 PC4 (io), 33 PC5 (io), 34 PB0 (io), 35 PB1 (io), 36 PB2 (io), 37 PE7 (io), 38 PE8 (io), 39 PE9 (io), 40 PE10 (io), 41 PE11 (io), 42 PE12 (io), 43 PE13 (io), 44 PE14 (io), 45 PE15 (io), 46 PB10 (io), 47 PB11 (io), 48 VCAP1 (power), 49 VSS (power), 50 VDD (power), 51 PB12 (io), 52 PB13 (io), 53 PB14 (io), 54 PB15 (io), 55 PD8 (io), 56 PD9 (io), 57 PD10 (io), 58 PD11 (io), 59 PD12 (io), 60 PD13 (io), 61 PD14 (io), 62 PD15 (io), 63 PC6 (io), 64 PC7 (io), 65 PC8 (io), 66 PC9 (io), 67 PA8 (io), 68 PA9 (io), 69 PA10 (io), 70 PA11 (io), 71 PA12 (io), 72 PA13 (io), 73 VCAP2 (power), 74 VSS (power), 75 VDD (power), 76 PA14 (io), 77 PA15 (io), 78 PC10 (io), 79 PC11 (io), 80 PC12 (io), 81 PD0 (io), 82 PD1 (io), 83 PD2 (io), 84 PD3 (io), 85 PD4 (io), 86 PD5 (io), 87 PD6 (io), 88 PD7 (io), 89 PB3 (io), 90 PB4 (io), 91 PB5 (io), 92 PB6 (io), 93 PB7 (io), 94 BOOT0 (in), 95 PB8 (io), 96 PB9 (io), 97 PE0 (io), 98 PE1 (io), 99 VSS (power), 100 VDD (power)

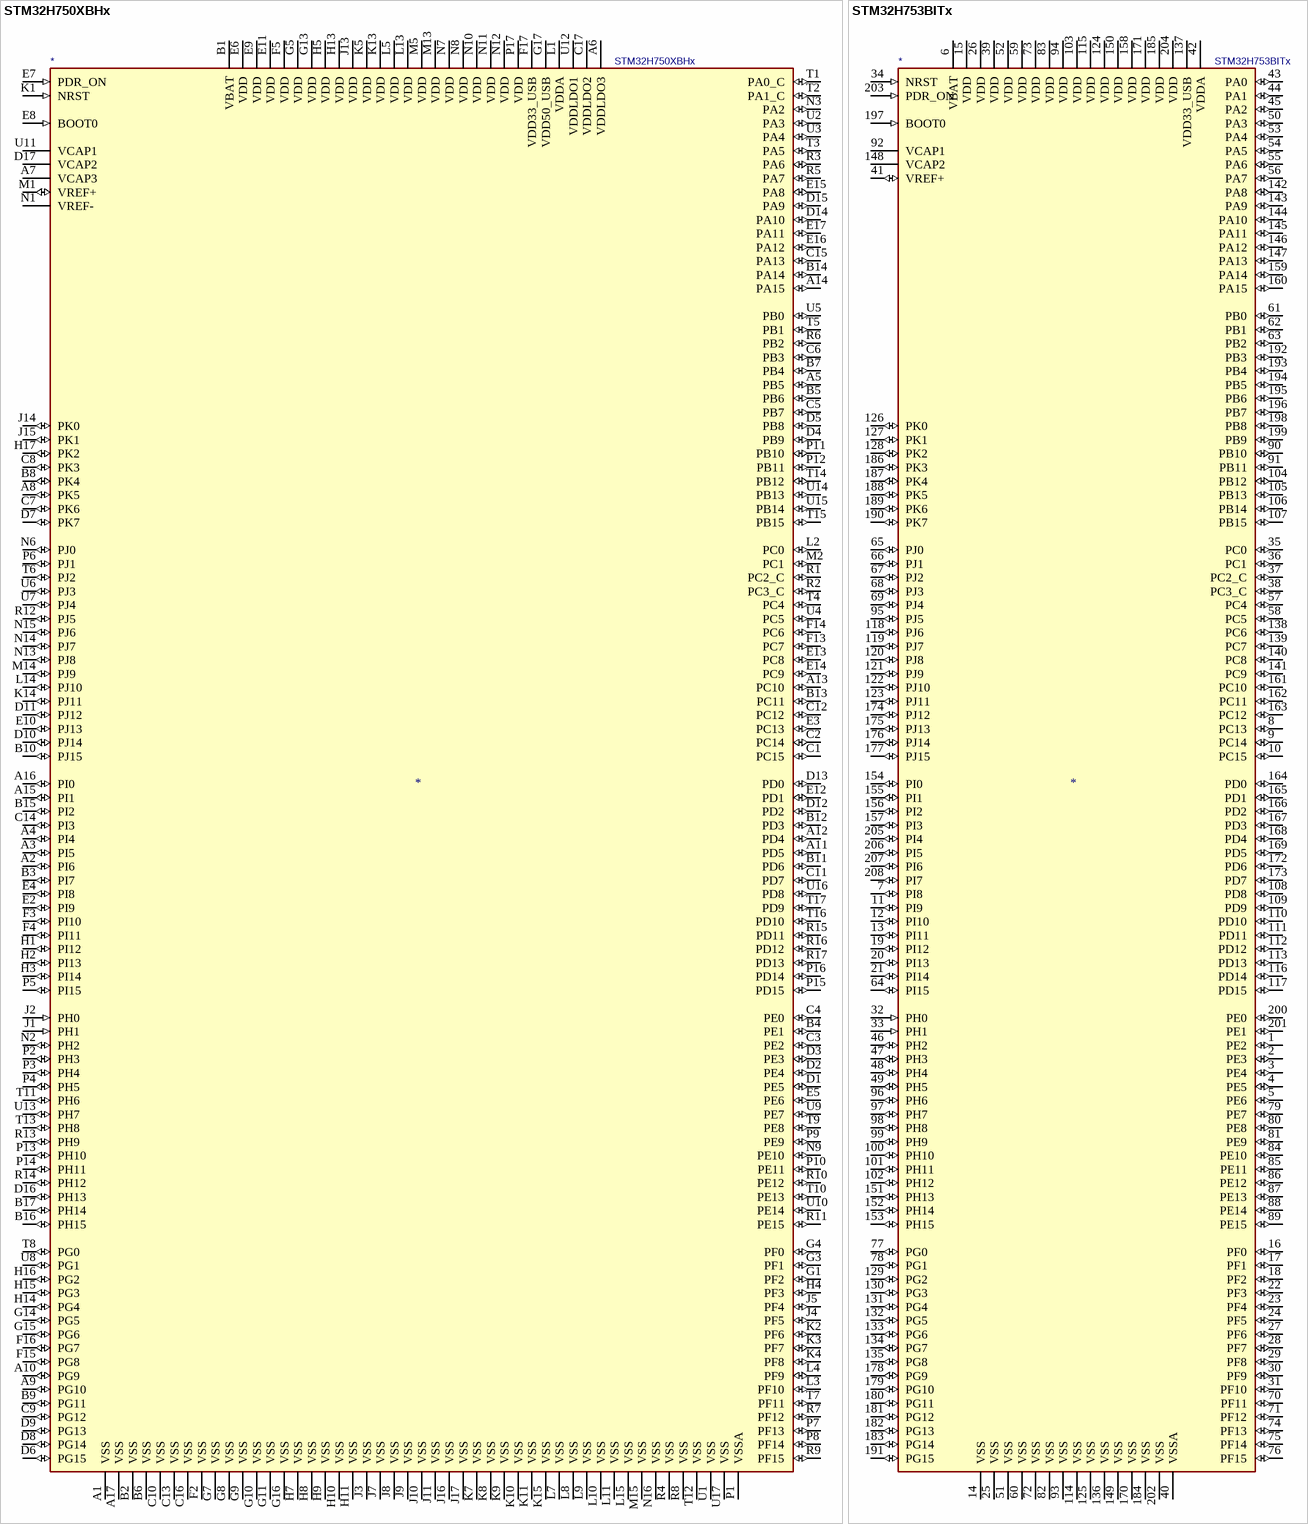
[diagram p4: symbols STM32H750XBHx to STM32H753BITx]

## STM32H750XBHx
designator *  value STM32H750XBHx
ki_keywords: ARM Cortex-M7 STM32H7; ki_description: ARM Cortex-M7 MCU, 128KB flash, 864KB RAM, 480MHz, 1.7-3.6V, 168 GPIO, TFBGA-240; ki_fp_filters: TFBGA*14x14mm*Layout17x17*P0.8mm*; Footprint: Package_BGA:TFBGA-265_14x14mm_Layout17x17_P0.8mm; Supplier: https://www.st.com/resource/en/datasheet/stm32h750ib.pdf
footprint TFBGA-265_14x14mm_Layout17x17_P0.8mm
pins: A1 VSS (power), A2 PI6 (io), A3 PI5 (io), A4 PI4 (io), A5 PB5 (io), A6 VDDLDO3 (power), A7 VCAP3 (power), A8 PK5 (io), A9 PG10 (io), A10 PG9 (io), A11 PD5 (io), A12 PD4 (io), A13 PC10 (io), A14 PA15 (io), A15 PI1 (io), A16 PI0 (io), A17 VSS (power), B1 VBAT (power), B2 VSS (power), B3 PI7 (io), B4 PE1 (io), B5 PB6 (io), B6 VSS (power), B7 PB4 (io), B8 PK4 (io), B9 PG11 (io), B10 PJ15 (io), B11 PD6 (io), B12 PD3 (io), B13 PC11 (io), B14 PA14 (io), B15 PI2 (io), B16 PH15 (io), B17 PH14 (io), C1 PC15 (io), C2 PC14 (io), C3 PE2 (io), C4 PE0 (io), C5 PB7 (io), C6 PB3 (io), C7 PK6 (io), C8 PK3 (io), C9 PG12 (io), C10 VSS (power), C11 PD7 (io), C12 PC12 (io), C13 VSS (power), C14 PI3 (io), C15 PA13 (io), C16 VSS (power), C17 VDDLDO2 (power), D1 PE5 (io), D2 PE4 (io), D3 PE3 (io), D4 PB9 (io), D5 PB8 (io), D6 PG15 (io), D7 PK7 (io), D8 PG14 (io), D9 PG13 (io), D10 PJ14 (io), D11 PJ12 (io), D12 PD2 (io), D13 PD0 (io), D14 PA10 (io), D15 PA9 (io), D16 PH13 (io), D17 VCAP2 (power), E1 NC (in) hidden, E2 PI9 (io), E3 PC13 (io), E4 PI8 (io), E5 PE6 (io), E6 VDD (power), E7 PDR_ON (in), E8 BOOT0 (in), E9 VDD (power), E10 PJ13 (io), E11 VDD (power), E12 PD1 (io), E13 PC8 (io), E14 PC9 (io), E15 PA8 (io), E16 PA12 (io), E17 PA11 (io), F1 NC (in) hidden, F2 VSS (power), F3 PI10 (io), F4 PI11 (io), F5 VDD (power), F13 PC7 (io), F14 PC6 (io), F15 PG8 (io), F16 PG7 (io), F17 VDD33_USB (power), G1 PF2 (io), G2 NC (in) hidden, G3 PF1 (io), G4 PF0 (io), G5 VDD (power), G7 VSS (power), G8 VSS (power), G9 VSS (power), G10 VSS (power), G11 VSS (power), G13 VDD (power), G14 PG5 (io), G15 PG6 (io), G16 VSS (power), G17 VDD50_USB (power), H1 PI12 (io), H2 PI13 (io), H3 PI14 (io), H4 PF3 (io), H5 VDD (power), H7 VSS (power), H8 VSS (power), H9 VSS (power), H10 VSS (power), H11 VSS (power), H13 VDD (power), H14 PG4 (io), H15 PG3 (io), H16 PG2 (io), H17 PK2 (io), J1 PH1 (in), J2 PH0 (in), J3 VSS (power), J4 PF5 (io), J5 PF4 (io), J7 VSS (power), J8 VSS (power), J9 VSS (power), J10 VSS (power), J11 VSS (power), J13 VDD (power), J14 PK0 (io), J15 PK1 (io), J16 VSS (power), J17 VSS (power), K1 NRST (in), K2 PF6 (io), K3 PF7 (io), K4 PF8 (io), K5 VDD (power), K7 VSS (power), K8 VSS (power), K9 VSS (power), K10 VSS (power), K11 VSS (power), K13 VDD (power), K14 PJ11 (io), K15 VSS (power), K16 NC (in) hidden, K17 NC (in) hidden, L1 VDDA (power), L2 PC0 (io), L3 PF10 (io), L4 PF9 (io), L5 VDD (power), L7 VSS (power), L8 VSS (power), L9 VSS (power), L10 VSS (power), L11 VSS (power), L13 VDD (power), L14 PJ10 (io), L15 VSS (power), L16 NC (in) hidden, L17 NC (in) hidden, M1 VREF+ (io), M2 PC1 (io), M5 VDD (power), M13 VDD (power), M14 PJ9 (io), M15 VSS (power), M16 NC (in) hidden, M17 NC (in) hidden, N1 VREF- (power), N2 PH2 (io), N3 PA2 (io), N6 PJ0 (io), N7 VDD (power), N8 VDD (power), N9 PE10 (io), N10 VDD (power), N11 VDD (power), N12 VDD (power), N13 PJ8 (io), N14 PJ7 (io), N15 PJ6 (io), N16 VSS (power), N17 NC (in) hidden, P1 VSSA (power), P2 PH3 (io), P3 PH4 (io), P4 PH5 (io), P5 PI15 (io), P6 PJ1 (io), P7 PF13 (io), P8 PF14 (io), P9 PE9 (io), P10 PE11 (io), P11 PB10 (io), P12 PB11 (io), P13 PH10 (io), P14 PH11 (io), P15 PD15 (io), P16 PD14 (io), P17 VDD (power), R1 PC2_C (io), R2 PC3_C (io), R3 PA6 (io), R4 VSS (power), R5 PA7 (io), R6 PB2 (io), R7 PF12 (io), R8 VSS (power), R9 PF15 (io), R10 PE12 (io), R11 PE15 (io), R12 PJ5 (io), R13 PH9 (io), R14 PH12 (io), R15 PD11 (io), R16 PD12 (io), R17 PD13 (io), T1 PA0_C (io), T2 PA1_C (io), T3 PA5 (io), T4 PC4 (io), T5 PB1 (io), T6 PJ2 (io), T7 PF11 (io), T8 PG0 (io), T9 PE8 (io), T10 PE13 (io), T11 PH6 (io), T12 VSS (power), T13 PH8 (io), T14 PB12 (io), T15 PB15 (io), T16 PD10 (io), T17 PD9 (io), U1 VSS (power), U2 PA3 (io), U3 PA4 (io), U4 PC5 (io), U5 PB0 (io), U6 PJ3 (io), U7 PJ4 (io), U8 PG1 (io), U9 PE7 (io), U10 PE14 (io), U11 VCAP1 (power), U12 VDDLDO1 (power), U13 PH7 (io), U14 PB13 (io), U15 PB14 (io), U16 PD8 (io), U17 VSS (power)

## STM32H753BITx
designator *  value STM32H753BITx
ki_keywords: ARM Cortex-M7 STM32H7 STM32H7x3; ki_description: ARM Cortex-M7 MCU, 2048KB flash, 864KB RAM, 400MHz, 1.7-3.6V, 168 GPIO, LQFP-208; ki_fp_filters: LQFP*28x28mm*P0.5mm*; Footprint: Package_QFP:LQFP-208_28x28mm_P0.5mm; Supplier: http://www.st.com/st-web-ui/static/active/en/resource/technical/document/datasheet/DM00388325.pdf
footprint LQFP-208_28x28mm_P0.5mm
pins: 1 PE2 (io), 2 PE3 (io), 3 PE4 (io), 4 PE5 (io), 5 PE6 (io), 6 VBAT (power), 7 PI8 (io), 8 PC13 (io), 9 PC14 (io), 10 PC15 (io), 11 PI9 (io), 12 PI10 (io), 13 PI11 (io), 14 VSS (power), 15 VDD (power), 16 PF0 (io), 17 PF1 (io), 18 PF2 (io), 19 PI12 (io), 20 PI13 (io), 21 PI14 (io), 22 PF3 (io), 23 PF4 (io), 24 PF5 (io), 25 VSS (power), 26 VDD (power), 27 PF6 (io), 28 PF7 (io), 29 PF8 (io), 30 PF9 (io), 31 PF10 (io), 32 PH0 (in), 33 PH1 (in), 34 NRST (in), 35 PC0 (io), 36 PC1 (io), 37 PC2_C (io), 38 PC3_C (io), 39 VDD (power), 40 VSSA (power), 41 VREF+ (io), 42 VDDA (power), 43 PA0 (io), 44 PA1 (io), 45 PA2 (io), 46 PH2 (io), 47 PH3 (io), 48 PH4 (io), 49 PH5 (io), 50 PA3 (io), 51 VSS (power), 52 VDD (power), 53 PA4 (io), 54 PA5 (io), 55 PA6 (io), 56 PA7 (io), 57 PC4 (io), 58 PC5 (io), 59 VDD (power), 60 VSS (power), 61 PB0 (io), 62 PB1 (io), 63 PB2 (io), 64 PI15 (io), 65 PJ0 (io), 66 PJ1 (io), 67 PJ2 (io), 68 PJ3 (io), 69 PJ4 (io), 70 PF11 (io), 71 PF12 (io), 72 VSS (power), 73 VDD (power), 74 PF13 (io), 75 PF14 (io), 76 PF15 (io), 77 PG0 (io), 78 PG1 (io), 79 PE7 (io), 80 PE8 (io), 81 PE9 (io), 82 VSS (power), 83 VDD (power), 84 PE10 (io), 85 PE11 (io), 86 PE12 (io), 87 PE13 (io), 88 PE14 (io), 89 PE15 (io), 90 PB10 (io), 91 PB11 (io), 92 VCAP1 (power), 93 VSS (power), 94 VDD (power), 95 PJ5 (io), 96 PH6 (io), 97 PH7 (io), 98 PH8 (io), 99 PH9 (io), 100 PH10 (io), 101 PH11 (io), 102 PH12 (io), 103 VDD (power), 104 PB12 (io), 105 PB13 (io), 106 PB14 (io), 107 PB15 (io), 108 PD8 (io), 109 PD9 (io), 110 PD10 (io), 111 PD11 (io), 112 PD12 (io), 113 PD13 (io), 114 VSS (power), 115 VDD (power), 116 PD14 (io), 117 PD15 (io), 118 PJ6 (io), 119 PJ7 (io), 120 PJ8 (io), 121 PJ9 (io), 122 PJ10 (io), 123 PJ11 (io), 124 VDD (power), 125 VSS (power), 126 PK0 (io), 127 PK1 (io), 128 PK2 (io), 129 PG2 (io), 130 PG3 (io), 131 PG4 (io), 132 PG5 (io), 133 PG6 (io), 134 PG7 (io), 135 PG8 (io), 136 VSS (power), 137 VDD33_USB (power), 138 PC6 (io), 139 PC7 (io), 140 PC8 (io), 141 PC9 (io), 142 PA8 (io), 143 PA9 (io), 144 PA10 (io), 145 PA11 (io), 146 PA12 (io), 147 PA13 (io), 148 VCAP2 (power), 149 VSS (power), 150 VDD (power), 151 PH13 (io), 152 PH14 (io), 153 PH15 (io), 154 PI0 (io), 155 PI1 (io), 156 PI2 (io), 157 PI3 (io), 158 VDD (power), 159 PA14 (io), 160 PA15 (io), 161 PC10 (io), 162 PC11 (io), 163 PC12 (io), 164 PD0 (io), 165 PD1 (io), 166 PD2 (io), 167 PD3 (io), 168 PD4 (io), 169 PD5 (io), 170 VSS (power), 171 VDD (power), 172 PD6 (io), 173 PD7 (io), 174 PJ12 (io), 175 PJ13 (io), 176 PJ14 (io), 177 PJ15 (io), 178 PG9 (io), 179 PG10 (io), 180 PG11 (io), 181 PG12 (io), 182 PG13 (io), 183 PG14 (io), 184 VSS (power), 185 VDD (power), 186 PK3 (io), 187 PK4 (io), 188 PK5 (io), 189 PK6 (io), 190 PK7 (io), 191 PG15 (io), 192 PB3 (io), 193 PB4 (io), 194 PB5 (io), 195 PB6 (io), 196 PB7 (io), 197 BOOT0 (in), 198 PB8 (io), 199 PB9 (io), 200 PE0 (io), 201 PE1 (io), 202 VSS (power), 203 PDR_ON (in), 204 VDD (power), 205 PI4 (io), 206 PI5 (io), 207 PI6 (io), 208 PI7 (io)

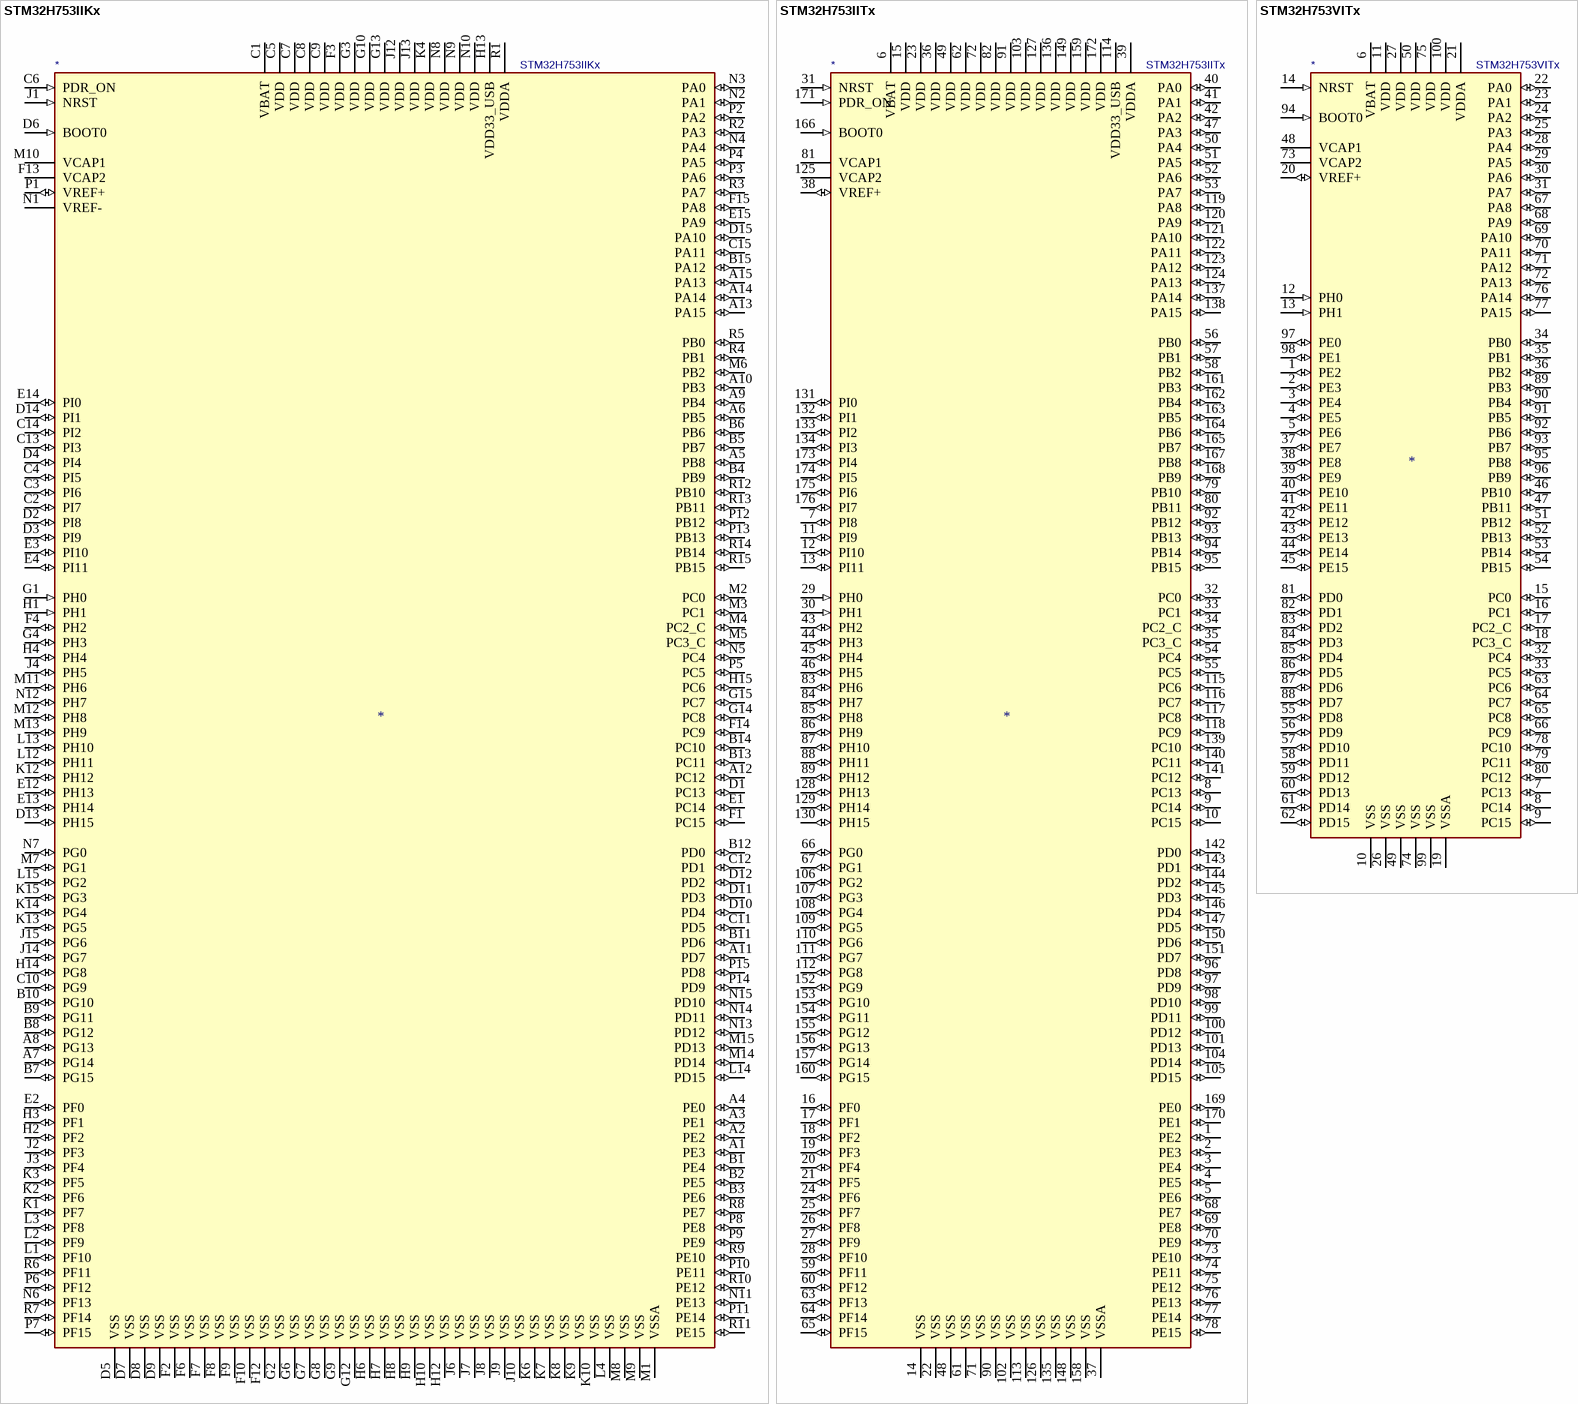
[diagram p5: symbols STM32H753IIKx to STM32H753VITx]

## STM32H753IIKx
designator *  value STM32H753IIKx
ki_keywords: ARM Cortex-M7 STM32H7 STM32H7x3; ki_description: ARM Cortex-M7 MCU, 2048KB flash, 864KB RAM, 400MHz, 1.7-3.6V, 140 GPIO, UFBGA-176; ki_fp_filters: UFBGA*10x10mm*Layout15x15*P0.65mm*; Footprint: Package_BGA:UFBGA-201_10x10mm_Layout15x15_P0.65mm; Supplier: http://www.st.com/st-web-ui/static/active/en/resource/technical/document/datasheet/DM00388325.pdf
footprint UFBGA-201_10x10mm_Layout15x15_P0.65mm
pins: A1 PE3 (io), A2 PE2 (io), A3 PE1 (io), A4 PE0 (io), A5 PB8 (io), A6 PB5 (io), A7 PG14 (io), A8 PG13 (io), A9 PB4 (io), A10 PB3 (io), A11 PD7 (io), A12 PC12 (io), A13 PA15 (io), A14 PA14 (io), A15 PA13 (io), B1 PE4 (io), B2 PE5 (io), B3 PE6 (io), B4 PB9 (io), B5 PB7 (io), B6 PB6 (io), B7 PG15 (io), B8 PG12 (io), B9 PG11 (io), B10 PG10 (io), B11 PD6 (io), B12 PD0 (io), B13 PC11 (io), B14 PC10 (io), B15 PA12 (io), C1 VBAT (power), C2 PI7 (io), C3 PI6 (io), C4 PI5 (io), C5 VDD (power), C6 PDR_ON (in), C7 VDD (power), C8 VDD (power), C9 VDD (power), C10 PG9 (io), C11 PD5 (io), C12 PD1 (io), C13 PI3 (io), C14 PI2 (io), C15 PA11 (io), D1 PC13 (io), D2 PI8 (io), D3 PI9 (io), D4 PI4 (io), D5 VSS (power), D6 BOOT0 (in), D7 VSS (power), D8 VSS (power), D9 VSS (power), D10 PD4 (io), D11 PD3 (io), D12 PD2 (io), D13 PH15 (io), D14 PI1 (io), D15 PA10 (io), E1 PC14 (io), E2 PF0 (io), E3 PI10 (io), E4 PI11 (io), E12 PH13 (io), E13 PH14 (io), E14 PI0 (io), E15 PA9 (io), F1 PC15 (io), F2 VSS (power), F3 VDD (power), F4 PH2 (io), F6 VSS (power), F7 VSS (power), F8 VSS (power), F9 VSS (power), F10 VSS (power), F12 VSS (power), F13 VCAP2 (power), F14 PC9 (io), F15 PA8 (io), G1 PH0 (in), G2 VSS (power), G3 VDD (power), G4 PH3 (io), G6 VSS (power), G7 VSS (power), G8 VSS (power), G9 VSS (power), G10 VDD (power), G12 VSS (power), G13 VDD (power), G14 PC8 (io), G15 PC7 (io), H1 PH1 (in), H2 PF2 (io), H3 PF1 (io), H4 PH4 (io), H6 VSS (power), H7 VSS (power), H8 VSS (power), H9 VSS (power), H10 VSS (power), H12 VSS (power), H13 VDD33_USB (power), H14 PG8 (io), H15 PC6 (io), J1 NRST (in), J2 PF3 (io), J3 PF4 (io), J4 PH5 (io), J6 VSS (power), J7 VSS (power), J8 VSS (power), J9 VSS (power), J10 VSS (power), J12 VDD (power), J13 VDD (power), J14 PG7 (io), J15 PG6 (io), K1 PF7 (io), K2 PF6 (io), K3 PF5 (io), K4 VDD (power), K6 VSS (power), K7 VSS (power), K8 VSS (power), K9 VSS (power), K10 VSS (power), K12 PH12 (io), K13 PG5 (io), K14 PG4 (io), K15 PG3 (io), L1 PF10 (io), L2 PF9 (io), L3 PF8 (io), L4 VSS (power), L12 PH11 (io), L13 PH10 (io), L14 PD15 (io), L15 PG2 (io), M1 VSSA (power), M2 PC0 (io), M3 PC1 (io), M4 PC2_C (io), M5 PC3_C (io), M6 PB2 (io), M7 PG1 (io), M8 VSS (power), M9 VSS (power), M10 VCAP1 (power), M11 PH6 (io), M12 PH8 (io), M13 PH9 (io), M14 PD14 (io), M15 PD13 (io), N1 VREF- (power), N2 PA1 (io), N3 PA0 (io), N4 PA4 (io), N5 PC4 (io), N6 PF13 (io), N7 PG0 (io), N8 VDD (power), N9 VDD (power), N10 VDD (power), N11 PE13 (io), N12 PH7 (io), N13 PD12 (io), N14 PD11 (io), N15 PD10 (io), P1 VREF+ (io), P2 PA2 (io), P3 PA6 (io), P4 PA5 (io), P5 PC5 (io), P6 PF12 (io), P7 PF15 (io), P8 PE8 (io), P9 PE9 (io), P10 PE11 (io), P11 PE14 (io), P12 PB12 (io), P13 PB13 (io), P14 PD9 (io), P15 PD8 (io), R1 VDDA (power), R2 PA3 (io), R3 PA7 (io), R4 PB1 (io), R5 PB0 (io), R6 PF11 (io), R7 PF14 (io), R8 PE7 (io), R9 PE10 (io), R10 PE12 (io), R11 PE15 (io), R12 PB10 (io), R13 PB11 (io), R14 PB14 (io), R15 PB15 (io)

## STM32H753IITx
designator *  value STM32H753IITx
ki_keywords: ARM Cortex-M7 STM32H7 STM32H7x3; ki_description: ARM Cortex-M7 MCU, 2048KB flash, 864KB RAM, 400MHz, 1.7-3.6V, 140 GPIO, LQFP-176; ki_fp_filters: LQFP*24x24mm*P0.5mm*; Footprint: Package_QFP:LQFP-176_24x24mm_P0.5mm; Supplier: http://www.st.com/st-web-ui/static/active/en/resource/technical/document/datasheet/DM00388325.pdf
footprint LQFP-176_24x24mm_P0.5mm
pins: 1 PE2 (io), 2 PE3 (io), 3 PE4 (io), 4 PE5 (io), 5 PE6 (io), 6 VBAT (power), 7 PI8 (io), 8 PC13 (io), 9 PC14 (io), 10 PC15 (io), 11 PI9 (io), 12 PI10 (io), 13 PI11 (io), 14 VSS (power), 15 VDD (power), 16 PF0 (io), 17 PF1 (io), 18 PF2 (io), 19 PF3 (io), 20 PF4 (io), 21 PF5 (io), 22 VSS (power), 23 VDD (power), 24 PF6 (io), 25 PF7 (io), 26 PF8 (io), 27 PF9 (io), 28 PF10 (io), 29 PH0 (in), 30 PH1 (in), 31 NRST (in), 32 PC0 (io), 33 PC1 (io), 34 PC2_C (io), 35 PC3_C (io), 36 VDD (power), 37 VSSA (power), 38 VREF+ (io), 39 VDDA (power), 40 PA0 (io), 41 PA1 (io), 42 PA2 (io), 43 PH2 (io), 44 PH3 (io), 45 PH4 (io), 46 PH5 (io), 47 PA3 (io), 48 VSS (power), 49 VDD (power), 50 PA4 (io), 51 PA5 (io), 52 PA6 (io), 53 PA7 (io), 54 PC4 (io), 55 PC5 (io), 56 PB0 (io), 57 PB1 (io), 58 PB2 (io), 59 PF11 (io), 60 PF12 (io), 61 VSS (power), 62 VDD (power), 63 PF13 (io), 64 PF14 (io), 65 PF15 (io), 66 PG0 (io), 67 PG1 (io), 68 PE7 (io), 69 PE8 (io), 70 PE9 (io), 71 VSS (power), 72 VDD (power), 73 PE10 (io), 74 PE11 (io), 75 PE12 (io), 76 PE13 (io), 77 PE14 (io), 78 PE15 (io), 79 PB10 (io), 80 PB11 (io), 81 VCAP1 (power), 82 VDD (power), 83 PH6 (io), 84 PH7 (io), 85 PH8 (io), 86 PH9 (io), 87 PH10 (io), 88 PH11 (io), 89 PH12 (io), 90 VSS (power), 91 VDD (power), 92 PB12 (io), 93 PB13 (io), 94 PB14 (io), 95 PB15 (io), 96 PD8 (io), 97 PD9 (io), 98 PD10 (io), 99 PD11 (io), 100 PD12 (io), 101 PD13 (io), 102 VSS (power), 103 VDD (power), 104 PD14 (io), 105 PD15 (io), 106 PG2 (io), 107 PG3 (io), 108 PG4 (io), 109 PG5 (io), 110 PG6 (io), 111 PG7 (io), 112 PG8 (io), 113 VSS (power), 114 VDD33_USB (power), 115 PC6 (io), 116 PC7 (io), 117 PC8 (io), 118 PC9 (io), 119 PA8 (io), 120 PA9 (io), 121 PA10 (io), 122 PA11 (io), 123 PA12 (io), 124 PA13 (io), 125 VCAP2 (power), 126 VSS (power), 127 VDD (power), 128 PH13 (io), 129 PH14 (io), 130 PH15 (io), 131 PI0 (io), 132 PI1 (io), 133 PI2 (io), 134 PI3 (io), 135 VSS (power), 136 VDD (power), 137 PA14 (io), 138 PA15 (io), 139 PC10 (io), 140 PC11 (io), 141 PC12 (io), 142 PD0 (io), 143 PD1 (io), 144 PD2 (io), 145 PD3 (io), 146 PD4 (io), 147 PD5 (io), 148 VSS (power), 149 VDD (power), 150 PD6 (io), 151 PD7 (io), 152 PG9 (io), 153 PG10 (io), 154 PG11 (io), 155 PG12 (io), 156 PG13 (io), 157 PG14 (io), 158 VSS (power), 159 VDD (power), 160 PG15 (io), 161 PB3 (io), 162 PB4 (io), 163 PB5 (io), 164 PB6 (io), 165 PB7 (io), 166 BOOT0 (in), 167 PB8 (io), 168 PB9 (io), 169 PE0 (io), 170 PE1 (io), 171 PDR_ON (in), 172 VDD (power), 173 PI4 (io), 174 PI5 (io), 175 PI6 (io), 176 PI7 (io)

## STM32H753VITx
designator *  value STM32H753VITx
ki_keywords: ARM Cortex-M7 STM32H7 STM32H7x3; ki_description: ARM Cortex-M7 MCU, 2048KB flash, 864KB RAM, 400MHz, 1.7-3.6V, 82 GPIO, LQFP-100; ki_fp_filters: LQFP*14x14mm*P0.5mm*; Footprint: Package_QFP:LQFP-100_14x14mm_P0.5mm; Supplier: http://www.st.com/st-web-ui/static/active/en/resource/technical/document/datasheet/DM00388325.pdf
footprint LQFP-100_14x14mm_P0.5mm
pins: 1 PE2 (io), 2 PE3 (io), 3 PE4 (io), 4 PE5 (io), 5 PE6 (io), 6 VBAT (power), 7 PC13 (io), 8 PC14 (io), 9 PC15 (io), 10 VSS (power), 11 VDD (power), 12 PH0 (in), 13 PH1 (in), 14 NRST (in), 15 PC0 (io), 16 PC1 (io), 17 PC2_C (io), 18 PC3_C (io), 19 VSSA (power), 20 VREF+ (io), 21 VDDA (power), 22 PA0 (io), 23 PA1 (io), 24 PA2 (io), 25 PA3 (io), 26 VSS (power), 27 VDD (power), 28 PA4 (io), 29 PA5 (io), 30 PA6 (io), 31 PA7 (io), 32 PC4 (io), 33 PC5 (io), 34 PB0 (io), 35 PB1 (io), 36 PB2 (io), 37 PE7 (io), 38 PE8 (io), 39 PE9 (io), 40 PE10 (io), 41 PE11 (io), 42 PE12 (io), 43 PE13 (io), 44 PE14 (io), 45 PE15 (io), 46 PB10 (io), 47 PB11 (io), 48 VCAP1 (power), 49 VSS (power), 50 VDD (power), 51 PB12 (io), 52 PB13 (io), 53 PB14 (io), 54 PB15 (io), 55 PD8 (io), 56 PD9 (io), 57 PD10 (io), 58 PD11 (io), 59 PD12 (io), 60 PD13 (io), 61 PD14 (io), 62 PD15 (io), 63 PC6 (io), 64 PC7 (io), 65 PC8 (io), 66 PC9 (io), 67 PA8 (io), 68 PA9 (io), 69 PA10 (io), 70 PA11 (io), 71 PA12 (io), 72 PA13 (io), 73 VCAP2 (power), 74 VSS (power), 75 VDD (power), 76 PA14 (io), 77 PA15 (io), 78 PC10 (io), 79 PC11 (io), 80 PC12 (io), 81 PD0 (io), 82 PD1 (io), 83 PD2 (io), 84 PD3 (io), 85 PD4 (io), 86 PD5 (io), 87 PD6 (io), 88 PD7 (io), 89 PB3 (io), 90 PB4 (io), 91 PB5 (io), 92 PB6 (io), 93 PB7 (io), 94 BOOT0 (in), 95 PB8 (io), 96 PB9 (io), 97 PE0 (io), 98 PE1 (io), 99 VSS (power), 100 VDD (power)

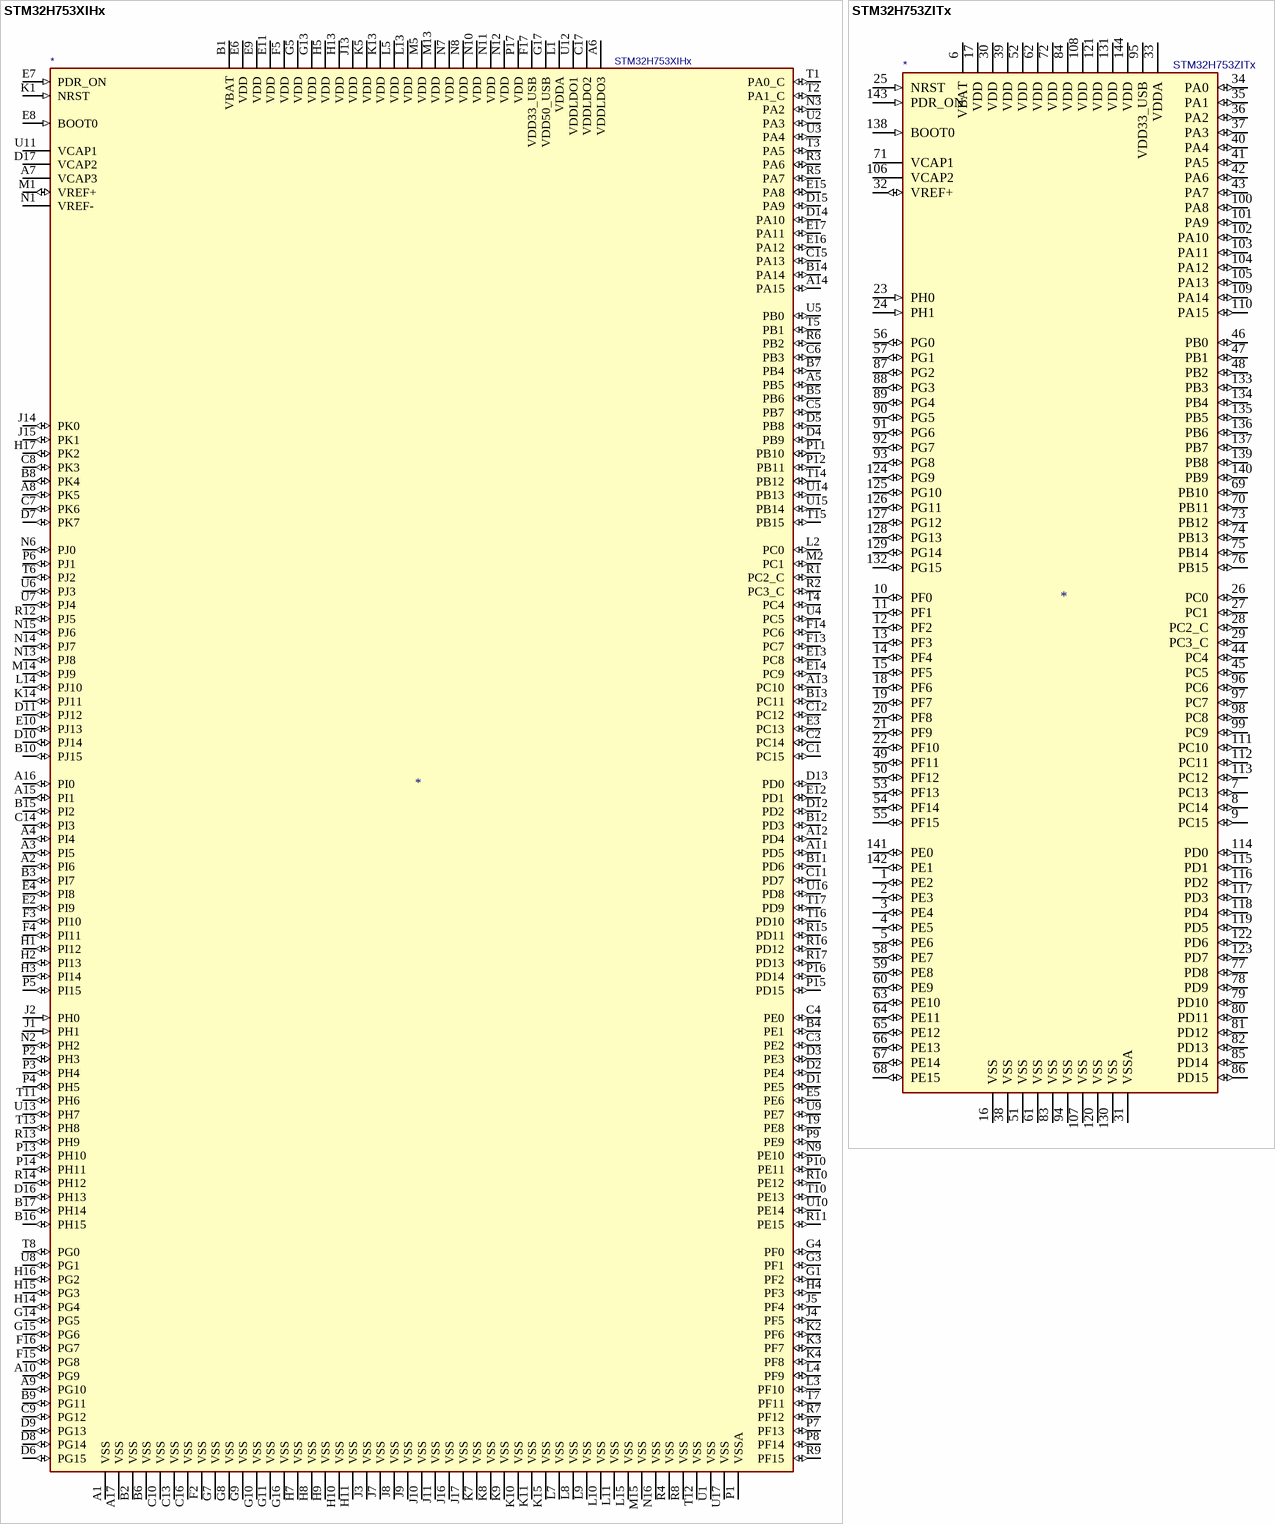
[diagram p6: symbols STM32H753XIHx to STM32H753ZITx]

## STM32H753XIHx
designator *  value STM32H753XIHx
ki_keywords: ARM Cortex-M7 STM32H7 STM32H7x3; ki_description: ARM Cortex-M7 MCU, 2048KB flash, 864KB RAM, 400MHz, 1.7-3.6V, 168 GPIO, TFBGA-240; ki_fp_filters: TFBGA*14x14mm*Layout17x17*P0.8mm*; Footprint: Package_BGA:TFBGA-265_14x14mm_Layout17x17_P0.8mm; Supplier: http://www.st.com/st-web-ui/static/active/en/resource/technical/document/datasheet/DM00388325.pdf
footprint TFBGA-265_14x14mm_Layout17x17_P0.8mm
pins: A1 VSS (power), A2 PI6 (io), A3 PI5 (io), A4 PI4 (io), A5 PB5 (io), A6 VDDLDO3 (power), A7 VCAP3 (power), A8 PK5 (io), A9 PG10 (io), A10 PG9 (io), A11 PD5 (io), A12 PD4 (io), A13 PC10 (io), A14 PA15 (io), A15 PI1 (io), A16 PI0 (io), A17 VSS (power), B1 VBAT (power), B2 VSS (power), B3 PI7 (io), B4 PE1 (io), B5 PB6 (io), B6 VSS (power), B7 PB4 (io), B8 PK4 (io), B9 PG11 (io), B10 PJ15 (io), B11 PD6 (io), B12 PD3 (io), B13 PC11 (io), B14 PA14 (io), B15 PI2 (io), B16 PH15 (io), B17 PH14 (io), C1 PC15 (io), C2 PC14 (io), C3 PE2 (io), C4 PE0 (io), C5 PB7 (io), C6 PB3 (io), C7 PK6 (io), C8 PK3 (io), C9 PG12 (io), C10 VSS (power), C11 PD7 (io), C12 PC12 (io), C13 VSS (power), C14 PI3 (io), C15 PA13 (io), C16 VSS (power), C17 VDDLDO2 (power), D1 PE5 (io), D2 PE4 (io), D3 PE3 (io), D4 PB9 (io), D5 PB8 (io), D6 PG15 (io), D7 PK7 (io), D8 PG14 (io), D9 PG13 (io), D10 PJ14 (io), D11 PJ12 (io), D12 PD2 (io), D13 PD0 (io), D14 PA10 (io), D15 PA9 (io), D16 PH13 (io), D17 VCAP2 (power), E1 NC (in) hidden, E2 PI9 (io), E3 PC13 (io), E4 PI8 (io), E5 PE6 (io), E6 VDD (power), E7 PDR_ON (in), E8 BOOT0 (in), E9 VDD (power), E10 PJ13 (io), E11 VDD (power), E12 PD1 (io), E13 PC8 (io), E14 PC9 (io), E15 PA8 (io), E16 PA12 (io), E17 PA11 (io), F1 NC (in) hidden, F2 VSS (power), F3 PI10 (io), F4 PI11 (io), F5 VDD (power), F13 PC7 (io), F14 PC6 (io), F15 PG8 (io), F16 PG7 (io), F17 VDD33_USB (power), G1 PF2 (io), G2 NC (in) hidden, G3 PF1 (io), G4 PF0 (io), G5 VDD (power), G7 VSS (power), G8 VSS (power), G9 VSS (power), G10 VSS (power), G11 VSS (power), G13 VDD (power), G14 PG5 (io), G15 PG6 (io), G16 VSS (power), G17 VDD50_USB (power), H1 PI12 (io), H2 PI13 (io), H3 PI14 (io), H4 PF3 (io), H5 VDD (power), H7 VSS (power), H8 VSS (power), H9 VSS (power), H10 VSS (power), H11 VSS (power), H13 VDD (power), H14 PG4 (io), H15 PG3 (io), H16 PG2 (io), H17 PK2 (io), J1 PH1 (in), J2 PH0 (in), J3 VSS (power), J4 PF5 (io), J5 PF4 (io), J7 VSS (power), J8 VSS (power), J9 VSS (power), J10 VSS (power), J11 VSS (power), J13 VDD (power), J14 PK0 (io), J15 PK1 (io), J16 VSS (power), J17 VSS (power), K1 NRST (in), K2 PF6 (io), K3 PF7 (io), K4 PF8 (io), K5 VDD (power), K7 VSS (power), K8 VSS (power), K9 VSS (power), K10 VSS (power), K11 VSS (power), K13 VDD (power), K14 PJ11 (io), K15 VSS (power), K16 NC (in) hidden, K17 NC (in) hidden, L1 VDDA (power), L2 PC0 (io), L3 PF10 (io), L4 PF9 (io), L5 VDD (power), L7 VSS (power), L8 VSS (power), L9 VSS (power), L10 VSS (power), L11 VSS (power), L13 VDD (power), L14 PJ10 (io), L15 VSS (power), L16 NC (in) hidden, L17 NC (in) hidden, M1 VREF+ (io), M2 PC1 (io), M5 VDD (power), M13 VDD (power), M14 PJ9 (io), M15 VSS (power), M16 NC (in) hidden, M17 NC (in) hidden, N1 VREF- (power), N2 PH2 (io), N3 PA2 (io), N6 PJ0 (io), N7 VDD (power), N8 VDD (power), N9 PE10 (io), N10 VDD (power), N11 VDD (power), N12 VDD (power), N13 PJ8 (io), N14 PJ7 (io), N15 PJ6 (io), N16 VSS (power), N17 NC (in) hidden, P1 VSSA (power), P2 PH3 (io), P3 PH4 (io), P4 PH5 (io), P5 PI15 (io), P6 PJ1 (io), P7 PF13 (io), P8 PF14 (io), P9 PE9 (io), P10 PE11 (io), P11 PB10 (io), P12 PB11 (io), P13 PH10 (io), P14 PH11 (io), P15 PD15 (io), P16 PD14 (io), P17 VDD (power), R1 PC2_C (io), R2 PC3_C (io), R3 PA6 (io), R4 VSS (power), R5 PA7 (io), R6 PB2 (io), R7 PF12 (io), R8 VSS (power), R9 PF15 (io), R10 PE12 (io), R11 PE15 (io), R12 PJ5 (io), R13 PH9 (io), R14 PH12 (io), R15 PD11 (io), R16 PD12 (io), R17 PD13 (io), T1 PA0_C (io), T2 PA1_C (io), T3 PA5 (io), T4 PC4 (io), T5 PB1 (io), T6 PJ2 (io), T7 PF11 (io), T8 PG0 (io), T9 PE8 (io), T10 PE13 (io), T11 PH6 (io), T12 VSS (power), T13 PH8 (io), T14 PB12 (io), T15 PB15 (io), T16 PD10 (io), T17 PD9 (io), U1 VSS (power), U2 PA3 (io), U3 PA4 (io), U4 PC5 (io), U5 PB0 (io), U6 PJ3 (io), U7 PJ4 (io), U8 PG1 (io), U9 PE7 (io), U10 PE14 (io), U11 VCAP1 (power), U12 VDDLDO1 (power), U13 PH7 (io), U14 PB13 (io), U15 PB14 (io), U16 PD8 (io), U17 VSS (power)

## STM32H753ZITx
designator *  value STM32H753ZITx
ki_keywords: ARM Cortex-M7 STM32H7 STM32H7x3; ki_description: ARM Cortex-M7 MCU, 2048KB flash, 864KB RAM, 400MHz, 1.7-3.6V, 114 GPIO, LQFP-144; ki_fp_filters: LQFP*20x20mm*P0.5mm*; Footprint: Package_QFP:LQFP-144_20x20mm_P0.5mm; Supplier: http://www.st.com/st-web-ui/static/active/en/resource/technical/document/datasheet/DM00388325.pdf
footprint LQFP-144_20x20mm_P0.5mm
pins: 1 PE2 (io), 2 PE3 (io), 3 PE4 (io), 4 PE5 (io), 5 PE6 (io), 6 VBAT (power), 7 PC13 (io), 8 PC14 (io), 9 PC15 (io), 10 PF0 (io), 11 PF1 (io), 12 PF2 (io), 13 PF3 (io), 14 PF4 (io), 15 PF5 (io), 16 VSS (power), 17 VDD (power), 18 PF6 (io), 19 PF7 (io), 20 PF8 (io), 21 PF9 (io), 22 PF10 (io), 23 PH0 (in), 24 PH1 (in), 25 NRST (in), 26 PC0 (io), 27 PC1 (io), 28 PC2_C (io), 29 PC3_C (io), 30 VDD (power), 31 VSSA (power), 32 VREF+ (io), 33 VDDA (power), 34 PA0 (io), 35 PA1 (io), 36 PA2 (io), 37 PA3 (io), 38 VSS (power), 39 VDD (power), 40 PA4 (io), 41 PA5 (io), 42 PA6 (io), 43 PA7 (io), 44 PC4 (io), 45 PC5 (io), 46 PB0 (io), 47 PB1 (io), 48 PB2 (io), 49 PF11 (io), 50 PF12 (io), 51 VSS (power), 52 VDD (power), 53 PF13 (io), 54 PF14 (io), 55 PF15 (io), 56 PG0 (io), 57 PG1 (io), 58 PE7 (io), 59 PE8 (io), 60 PE9 (io), 61 VSS (power), 62 VDD (power), 63 PE10 (io), 64 PE11 (io), 65 PE12 (io), 66 PE13 (io), 67 PE14 (io), 68 PE15 (io), 69 PB10 (io), 70 PB11 (io), 71 VCAP1 (power), 72 VDD (power), 73 PB12 (io), 74 PB13 (io), 75 PB14 (io), 76 PB15 (io), 77 PD8 (io), 78 PD9 (io), 79 PD10 (io), 80 PD11 (io), 81 PD12 (io), 82 PD13 (io), 83 VSS (power), 84 VDD (power), 85 PD14 (io), 86 PD15 (io), 87 PG2 (io), 88 PG3 (io), 89 PG4 (io), 90 PG5 (io), 91 PG6 (io), 92 PG7 (io), 93 PG8 (io), 94 VSS (power), 95 VDD33_USB (power), 96 PC6 (io), 97 PC7 (io), 98 PC8 (io), 99 PC9 (io), 100 PA8 (io), 101 PA9 (io), 102 PA10 (io), 103 PA11 (io), 104 PA12 (io), 105 PA13 (io), 106 VCAP2 (power), 107 VSS (power), 108 VDD (power), 109 PA14 (io), 110 PA15 (io), 111 PC10 (io), 112 PC11 (io), 113 PC12 (io), 114 PD0 (io), 115 PD1 (io), 116 PD2 (io), 117 PD3 (io), 118 PD4 (io), 119 PD5 (io), 120 VSS (power), 121 VDD (power), 122 PD6 (io), 123 PD7 (io), 124 PG9 (io), 125 PG10 (io), 126 PG11 (io), 127 PG12 (io), 128 PG13 (io), 129 PG14 (io), 130 VSS (power), 131 VDD (power), 132 PG15 (io), 133 PB3 (io), 134 PB4 (io), 135 PB5 (io), 136 PB6 (io), 137 PB7 (io), 138 BOOT0 (in), 139 PB8 (io), 140 PB9 (io), 141 PE0 (io), 142 PE1 (io), 143 PDR_ON (in), 144 VDD (power)